# Altium schematic symbol library Hello.SchLib: 388 symbols (part 1 of 3)
Pins are listed as number, name and electrical type; pins without a type are passive.

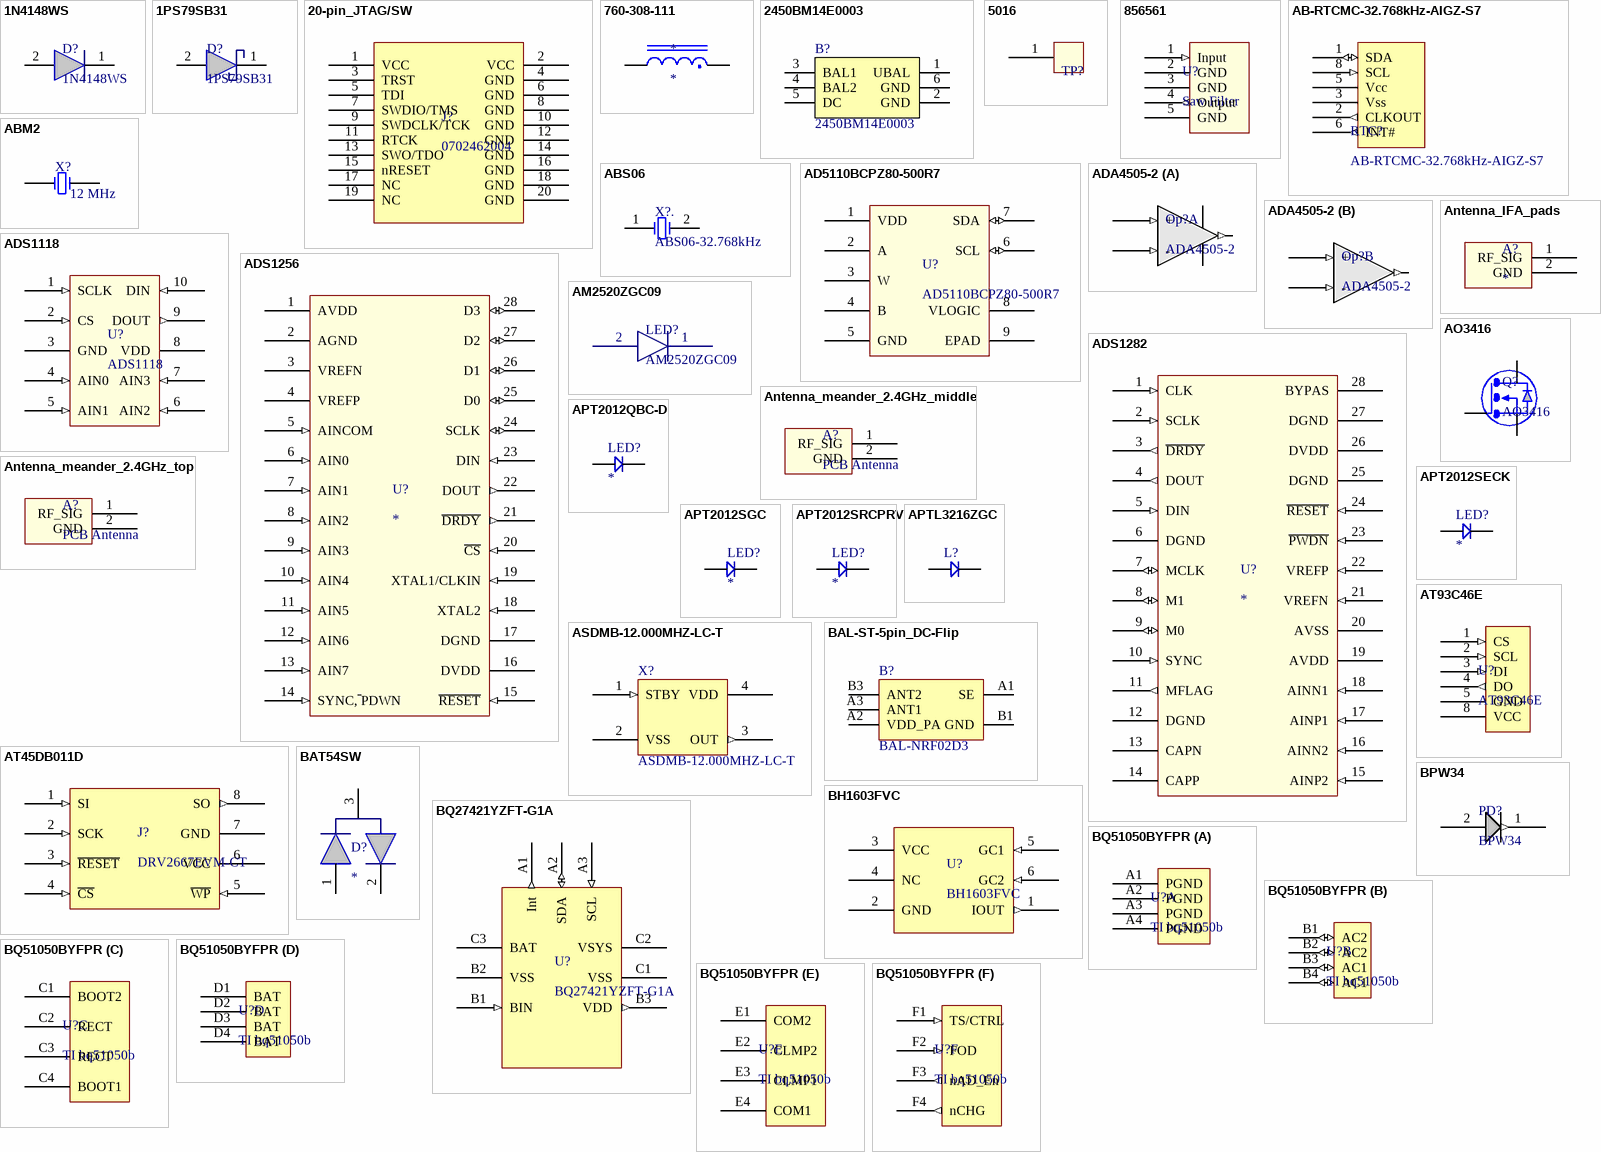
[diagram p0: symbols 1N4148WS to BQ51050BYFPR]

## 1N4148WS
designator D?
Standard diode, 75V 150mA; Vendor: Fairchild; PN: 1N4148WS
footprint SOD-323 (SOD-323 (SC-76) diode package)
pins: 1 Cathode, 2 Anode

## 1PS79SB31
designator D?
Schottky diode, 30V 200mA; Vendor: NXP; PN: 1PS79SB31
footprint SOD-523 (Diode small package)
pins: 1 Cathode, 2 Anode

## 20-pin_JTAG/SW
designator J?, comment 0702462004
20-pin JTAG connector; Vendor: Molex; PN: 0702462004
pins: 1 VCC, 2 VCC, 3 TRST, 4 GND, 5 TDI, 6 GND, 7 SWDIO/TMS, 8 GND, 9 SWDCLK/TCK, 10 GND, 11 RTCK, 12 GND, 13 SWO/TDO, 14 GND, 15 nRESET, 16 GND, 17 NC, 18 GND, 19 NC, 20 GND

## 760-308-111
designator *
Wuerth inductor
pins: 1, 2

## 2450BM14E0003
designator B?
2.45 GHz Impedance Matched Balun-Filter; Vendor: Johanson; PN: 2450BM14E0003
footprint BAL-0603-6pin (1608 balun, 6-Pins, Body 0.8x1.6mm, Pitch 0.50mm)
pins: 1 UBAL, 2 GND, 3 BAL1, 4 BAL2, 5 DC, 6 GND (power)

## 5016
designator 5016, comment TP?
Single-pad test point
footprint 5016 (Single-pad test point)
footprint TP0875x050 (Test Pad 0.875x0.50mm)
pins: 1
1 alternate drawing of the same symbol

## 856561
designator U?, comment Saw Filter
TriQuint 1575.42 Mhz Saw Filter
footprint CSP-5BT (Chip Scale Package, 5 pad, 1.40 x1.20 x 0.46mm)
pins: 1 Input (in), 2 GND (power), 3 GND (power), 4 Output (out), 5 GND (power)

## AB-RTCMC-32.768kHz-AIGZ-S7
designator RTC?
Abracon I2C RTC w/ integrated XO; PN: AB-RTCMC-32.768kHz-AIGZ-S7; Vendor: Abracon
footprint 8-CLCC (8 lead CLCC package, 2.3 x 1.5mm)
pins: 1 SDA (io), 2 CLKOUT (out), 3 Vss (power), 4 NC hidden, 5 Vcc (power), 6 INT# (out), 7 NC hidden, 8 SCL (in)

## ABM2
designator X?  value 12 MHz  (hidden comment: *)
Abracon ABM2 12MHz XO 8.0x4.5x1.4mm
footprint ABM2 (Abracon ABM2 2-lead XO 4.5x8x1.4mm)
pins: 1, 2

## ABS06
designator X?., comment ABS06-32.768kHz
Abracon ABS06 32.768kHz XO 2.0x1.2x0.6mm; Vendor: Abracon; Value: 32.768kHz; PN: ABS06-32.768kHz
footprint ABS06 (Abracon ABS06 32.768KHz XO 1.2x2.0x0.6mm)
pins: 1, 2

## AD5110BCPZ80-500R7
designator U?
80kOhm Digital potentiometer, 128 taps; Vendor: Analog Devices; PN: AD5110BCPZ80-500R7
pins: 1 VDD (power), 2 A, 3 W, 4 B, 5 GND (power), 6 SCL (io), 7 SDA (io), 8 VLOGIC (power), 9 EPAD

## ADA4505-2
designator Op?
Analog Devices Dual Op-Amp
footprint 8-WLCSP (8-ball WLCSP 1.42x1.42x0.65mm)
part A pins: A2 Vdd (power), A3 VoutA (out), B3 - (in), C2 Vss (power), C3 + (in)
part B pins: A1 VoutB (out), B1 - (in), C1 + (in)

## ADS1118
designator U?
SPI enabled Quad input ADC
footprint ADS1118 (ADC in a 10-QFN package)
pins: 1 SCLK (in), 2 CS (in), 3 GND (power), 4 AIN0 (in), 5 AIN1 (in), 6 AIN2 (in), 7 AIN3 (in), 8 VDD (power), 9 DOUT (out), 10 DIN (in)

## ADS1256
designator U?
24 bit ADC with SPI and Quad differential inputs; PN: ADS1256; Vendor: Texas Instruments
footprint SOIC-28
pins: 1 AVDD (power), 2 AGND (power), 3 VREFN, 4 VREFP, 5 AINCOM (in), 6 AIN0 (in), 7 AIN1 (in), 8 AIN2 (in), 9 AIN3 (in), 10 AIN4 (in), 11 AIN5 (in), 12 AIN6 (in), 13 AIN7 (in), 14 SYNC,~{ }PDWN (in), 15 ~{RESET} (in), 16 DVDD (power), 17 DGND (power), 18 XTAL2 (in), 19 XTAL1/CLKIN (in), 20 ~{CS} (in), 21 ~{DRDY} (out), 22 DOUT (out), 23 DIN (in), 24 SCLK (io), 25 D0 (io), 26 D1 (io), 27 D2 (io), 28 D3 (io)

## ADS1282
designator U?
31-bit ADC with SPI and 2 differential inputs; PN: ADS1282; Vendor: Texas Instruments
footprint SOIC-28
pins: 1 CLK (in), 2 SCLK (in), 3 ~{DRDY} (out), 4 DOUT (out), 5 DIN (in), 6 DGND (power), 7 MCLK (io), 8 M1 (io), 9 M0 (io), 10 SYNC (in), 11 MFLAG (out), 12 DGND (power), 13 CAPN, 14 CAPP, 15 AINP2 (in), 16 AINN2 (in), 17 AINP1 (in), 18 AINN1 (in), 19 AVDD (power), 20 AVSS (power), 21 VREFN (in), 22 VREFP (in), 23 ~{PWDN} (in), 24 ~{RESET} (in), 25 DGND (power), 26 DVDD (power), 27 DGND (power), 28 BYPAS

## AM2520ZGC09
designator LED?
Kingbright Green LED
footprint AM2520ZGC09 (Green Led)
pins: 1 Cathode, 2 Anode

## Antenna_IFA_pads
designator A?
PCB pads for external IFA
footprint Antenna_Pads (Antenna pads for external IFA)
pins: 1 RF_SIG, 2 GND

## Antenna_meander_2.4GHz_middle
designator A?, comment PCB Antenna  (net tie, no BOM)
Meander antenna printed on PCB
footprint Antenna_meander_2.4GHz_middle
footprint Antenna_meander_2.4GHz_middle_extended_keepout
footprint Antenna_meander_2.4GHz_MIDDLE_FAT (Antenna in a meander shape)
pins: 1 RF_SIG, 2 GND

## Antenna_meander_2.4GHz_top
designator A?, comment PCB Antenna  (net tie, no BOM)
Meander antenna printed on PCB
footprint Antenna_meander_2.4GHz_TOP (Antenna in a meander shape)
pins: 1 RF_SIG, 2 GND

## AO3416
designator Q?
N-channel enhancement mode FET; Vendor: Alpha and Omega; PN: AO3416
footprint SOT-23
pins: 1 G, 2 S, 3 D

## APT2012QBC-D
designator LED?
Kingbright Blue SMT LED
footprint LED_Kingbright
pins: 1 Anode, 2 Cathode

## APT2012SECK
designator LED?
Kingbright Orange SMT LED
footprint LED_Kingbright
pins: 1 Anode, 2 Cathode

## APT2012SGC
designator LED?
Kingbright Green SMT LED
footprint LED_Kingbright
pins: 1 Anode, 2 Cathode

## APT2012SRCPRV
designator LED?
Kingbright Red SMT LED
footprint LED_Kingbright
pins: 1 Anode, 2 Cathode

## APTL3216ZGC
designator L?  (value not drawn)
Kingbright Green SMT LED
footprint APTL3216ZGC (Kingbright green LED)
pins: 1 Anode, 2 Cathode

## ASDMB-12.000MHZ-LC-T
designator X?
ASDMB 12MHz Crystal Oscillator; Vendor: Abracon; PN: ASDMB-12.000MHZ-LC-T
footprint ASDMB (Abracon ASDMB Crystal Oscillator 2.5 x 2.0x 0.8mm)
pins: 1 STBY (in), 2 VSS (power), 3 OUT (out), 4 VDD (power)

## AT45DB011D
designator J?, comment DRV2667EVM-CT
1Mbit Flash memory, SPI interface 66MHz; Vendor: Atmel; PN: DRV2667EVM-CT
footprint SOIC-8 (SOIC, 8-Leads, Body 4.92x3.90mm, Pitch 1.27mm, IPC High Density)
pins: 1 SI (in), 2 SCK (in), 3 ~{RESET} (in), 4 ~{CS} (in), 5 ~{WP} (in), 6 VCC (power), 7 GND (power), 8 SO (out)

## AT93C46E
designator U?
Atmel 1KBIT 2MHZ 8SOIC I2C EEPROM
footprint SOIC-8 (SOIC, 8-Leads, Body 4.92x3.90mm, Pitch 1.27mm, IPC High Density)
pins: 1 CS (in), 2 SCL (in), 3 DI (in), 4 DO (out), 5 GND (power), 6 NC hidden, 7 NC hidden, 8 VCC (power)

## BAL-ST-5pin_DC-Flip
designator B?, comment BAL-NRF02D3
50 ohm balun transformer for 2.45GHz ISM; Vendor: ST; PN: BAL-NRF02D3
footprint BAL-ST-WLCSP
pins: A1 SE, A2 VDD_PA, A3 ANT1, B1 GND, B3 ANT2

## BAT54SW
designator D?
Double shottky diode
footprint SOT-323
pins: 1, 2, 3

## BH1603FVC
designator U?
Ambient light sensor IC; Vendor: Rohm; PN: BH1603FVC
footprint BH1603FVC (custom footprint for Rohm ambient light sensor)
pins: 1 IOUT (out), 2 GND (power), 3 VCC (power), 4 NC, 5 GC1 (in), 6 GC2 (in)

## BPW34
designator PD?
Photodetector
footprint BPW34 (Photodiode)
pins: 1 Cathode (out), 2 Anode

## BQ27421YZFT-G1A
designator U?
TI Fuel Gauge With Integrated Sense Resistor; PN: BQ27421YZFT-G1A; Vendor: TI
footprint BGA9C50P3X3_158X162X62 (BGA, 9-Leads, Body 1.58x1.62mmx0.63mm, Pitch 0.50mm)
pins: A1 Int (out), A2 SDA (io), A3 SCL (in), B1 BIN (in), B2 VSS (power), B3 VDD (out), C1 VSS (power), C2 VSYS (power), C3 BAT (power)

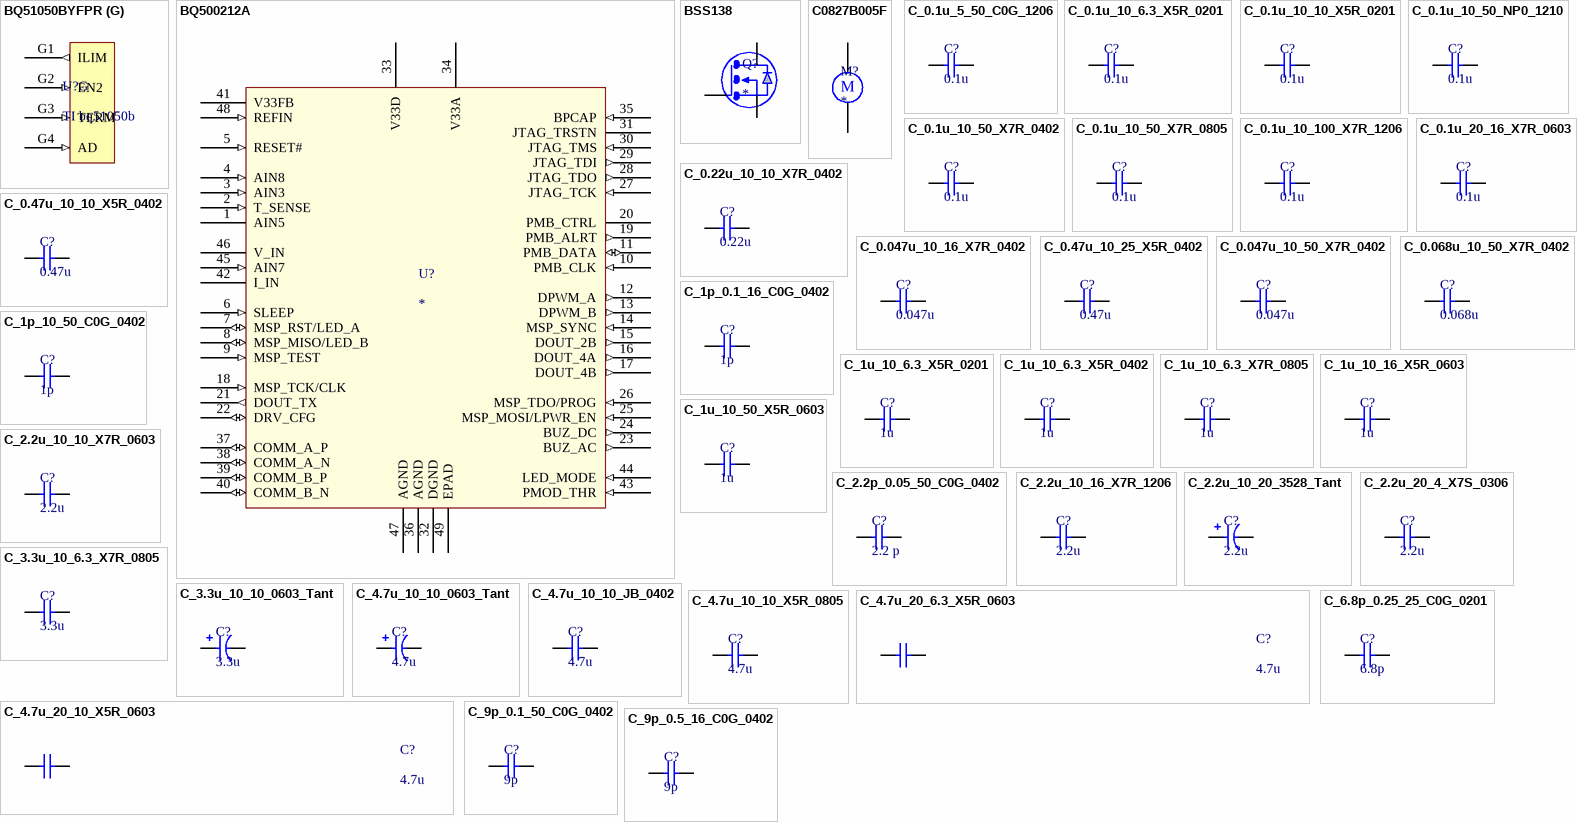
[diagram p1: symbols BQ51050BYFPR to C_9p_0.5_16_C0G_0402]

## BQ51050BYFPR
designator U?, comment TI bq51050b
TI Qi Inductive Charging Receiver with Battery Charging
footprint BGA-28 (1.91mm x 3.03mm 28-ball BGA)
part A pins: A1 PGND (power), A2 PGND (power), A3 PGND (power), A4 PGND (power)
part B pins: B1 AC2 (io), B2 AC2 (io), B3 AC1 (io), B4 AC1 (io)
part C pins: C1 BOOT2 (power), C2 RECT, C3 RECT, C4 BOOT1 (power)
part D pins: D1 BAT (power), D2 BAT (power), D3 BAT (power), D4 BAT (power)
part E pins: E1 COM2 (oe), E2 CLMP2 (oe), E3 CLMP1 (oe), E4 COM1 (oe)
part F pins: F1 TS/CTRL (in), F2 FOD (in), F3 nAD_En (out), F4 nCHG (out)
part G pins: G1 ILIM (out), G2 EN2 (in), G3 TERM (in), G4 AD (in)

## BQ500212A
designator U?
Wireless power controller for WPC TX A5 or A11; PN: BQ500212A; Vendor: TI
footprint VQFN-48
pins: 1 AIN5, 2 T_SENSE (in), 3 AIN3 (in), 4 AIN8 (in), 5 RESET# (in), 6 SLEEP (in) "Tie low during normal operation", 7 MSP_RST/LED_A (io), 8 MSP_MISO/LED_B (io), 9 MSP_TEST (in), 10 PMB_CLK (in), 11 PMB_DATA (io), 12 DPWM_A (out), 13 DPWM_B (out), 14 MSP_SYNC (in), 15 DOUT_2B (out), 16 DOUT_4A (out), 17 DOUT_4B (out), 18 MSP_TCK/CLK (in) "RTC crystal or RTC clock input", 19 PMB_ALRT (out), 20 PMB_CTRL (power), 21 DOUT_TX (out), 22 DRV_CFG (io), 23 BUZ_AC (out), 24 BUZ_DC (out), 25 MSP_MOSI/LPWR_EN (in), 26 MSP_TDO/PROG (in), 27 JTAG_TCK (in), 28 JTAG_TDO (out), 29 JTAG_TDI (out), 30 JTAG_TMS (in), 31 JTAG_TRSTN, 32 DGND (power), 33 V33D (power), 34 V33A (power), 35 BPCAP (in), 36 AGND (power), 37 COMM_A_P (io), 38 COMM_A_N (io), 39 COMM_B_P (io), 40 COMM_B_N (io), 41 V33FB (power), 42 I_IN (power) "EFuse programming supply, GND if no programming, else pull-down)", 43 PMOD_THR (in), 44 LED_MODE (in), 45 AIN7 (in), 46 V_IN (power), 47 AGND (power), 48 REFIN (in), 49 EPAD (power)

## BSS138
designator Q?
N-channel enhancement mode FET; PN: BSS138; Vendor: Fairchild
footprint SOT-23
pins: 1 G, 2 S, 3 D

## C0827B005F
designator M?
JinLong Machinery C0827B005F Vibration Motor
footprint C0827B005F (JinLong Machinery 8mm diameter radial vibration motor)
pins: 1 Vcc (power), 2 GND (power)
text: M

## C_0.1u_5_50_C0G_1206
designator C?, comment 0.1u
Chip capacitor; Vendor: TDK; PN: C3216C0G1H104J160AA; Tolerance: 5 %; Voltage: 50 V; Temp: C0G; Value: 0.1u; Size: 1206
footprint CAP1206_SENSE_DVT (Chip Capacitor, 2-Leads)
pins: 1, 2

## C_0.1u_10_6.3_X5R_0201
designator C?, comment 0.1u
Chip capacitor; Vendor: Taiyo Yuden; PN: JMK063BJ104KP-F; Tolerance: 10%; Voltage: 6.3; Temp: X5R; Value: 0.1u; Size: 0201
footprint CAP0201 (Chip Capacitor, 2-Leads, Body 0201 / 0.60x0.30mm, IPC High Density)
pins: 1, 2

## C_0.1u_10_10_X5R_0201
designator C?, comment 0.1u
Chip capacitor; Vendor: Taiyo Yuden; PN: LMK063BJ104KP-F; Tolerance: 10%; Voltage: 10V; Temp: X5R; Value: 0.1u; Size: 0201
footprint CAP0201 (Chip Capacitor, 2-Leads, Body 0201 / 0.60x0.30mm, IPC High Density)
pins: 1, 2

## C_0.1u_10_50_NP0_1210
designator C?, comment 0.1u
Chip capacitor; Vendor: TDK; PN: C3225C0G1H104K250AA; Tolerance: 10%; Voltage: 50V; Temp: NP0; Value: 0.1u; Size: 1210
footprint CAP1210 (Chip Capacitor, 2-Leads, Body 1206 / 3.20x2.5mm, IPC High Density)
pins: 1, 2

## C_0.1u_10_50_X7R_0402
designator C?, comment 0.1u
Chip capacitor; Vendor: Taiyo Yuden; PN: UMK105B7104KV-FR; Tolerance: 10%; Voltage: 50V; Temp: X7R; Value: 0.1u; Size: 0402
footprint CAP0402_SENSE_DVT (Chip Capacitor, 2-Leads)
pins: 1, 2

## C_0.1u_10_50_X7R_0805
designator C?, comment 0.1u
Chip capacitor; Vendor: Yageo; PN: CC0805KRX7R9BB104; Tolerance: 10%; Voltage: 50V; Temp: X7R; Value: 0.1u; Size: 0805
footprint CAP0805_SENSE_DVT (Chip Capacitor, 2-Leads)
pins: 1, 2

## C_0.1u_10_100_X7R_1206
designator C?, comment 0.1u
Chip capacitor; Vendor: TDK; PN: C3216X7R2A104K160AA; Tolerance: 10%; Voltage: 100V; Temp: X7R; Value: 0.1u; Size: 1206
footprint CAP1206_SENSE_DVT (Chip Capacitor, 2-Leads)
pins: 1, 2

## C_0.1u_20_16_X7R_0603
designator C?, comment 0.1u
Chip capacitor; Vendor: Samsung; PN: CL10B104MO8NNNC; Tolerance: 20%; Voltage: 16V; Temp: X7R; Value: 0.1u; Size: 0603
footprint CAP0603_SENSE_DVT (Chip Capacitor, 2-Leads)
pins: 1, 2

## C_0.22u_10_10_X7R_0402
designator C?, comment 0.22u
Chip capacitor; Vendor: TDK; PN: C1005X7R1A224K050BB; Tolerance: 10%; Voltage: 10V; Temp: X7R; Value: 0.22u; Size: 0402
footprint CAP0402_SENSE_DVT (Chip Capacitor, 2-Leads)
pins: 1, 2

## C_0.47u_10_10_X5R_0402
designator C?, comment 0.47u
Chip capacitor; Vendor: TDK; PN: LMK105BJ474KV-F; Tolerance: 10%; Voltage: 10V; Temp: X5R; Value: 0.47u; Size: 0402
footprint CAP0402_SENSE_DVT (Chip Capacitor, 2-Leads)
pins: 1, 2

## C_0.047u_10_16_X7R_0402
designator C?, comment 0.047u
Chip capacitor; Vendor: Taiyo Yuden; PN: EMK105B7473KV-F; Tolerance: 10%; Voltage: 16V; Temp: X7R; Value: 0.047u; Size: 0402
footprint CAP0402_SENSE_DVT (Chip Capacitor, 2-Leads)
pins: 1, 2

## C_0.47u_10_25_X5R_0402
designator C?, comment 0.47u
Chip capacitor; Vendor: TDK; PN: C1005X5R1E474K050BB; Tolerance: 10%; Voltage: 25V; Temp: X5R; Value: 0.47u; Size: 0402
footprint CAP0402_SENSE_DVT (Chip Capacitor, 2-Leads)
pins: 1, 2

## C_0.047u_10_50_X7R_0402
designator C?, comment 0.047u
Chip capacitor; Vendor: TDK; PN: C1005X7R1H473K050BB; Tolerance: 10%; Voltage: 50V; Temp: X7R; Value: 0.047u; Size: 0402
footprint CAP0402_SENSE_DVT (Chip Capacitor, 2-Leads)
pins: 1, 2

## C_0.068u_10_50_X7R_0402
designator C?, comment 0.068u
Chip capacitor; Vendor: TDK; PN: C1005X7R1H683K050BB; Tolerance: 10%; Voltage: 50V; Temp: X7R; Value: 0.068u; Size: 0402
footprint CAP0402_SENSE_DVT (Chip Capacitor, 2-Leads)
pins: 1, 2

## C_1p_0.1_16_C0G_0402
designator C?, comment 1p
Chip capacitor; Vendor: Murata; PN: GRM0225C1C1R0BD05L; Tolerance: 0.1; Voltage: 16V; Temp: C0G; Value: 1p; Size: 0402
footprint CAP0402_SENSE_DVT (Chip Capacitor, 2-Leads)
pins: 1, 2

## C_1p_10_50_C0G_0402
designator C?, comment 1p
Chip capacitor; Vendor: TDK; PN: C1005C0G1H010B050BA; Tolerance: 10%; Voltage: 50V; Temp: C0G; Value: 1p; Size: 0402
footprint CAP0402_SENSE_DVT (Chip Capacitor, 2-Leads)
pins: 1, 2

## C_1u_10_6.3_X5R_0201
designator C?, comment 1u
Chip capacitor; Vendor: Samsung; PN: CL03A105KQ3CSNC; Tolerance: 10%; Voltage: 6.3V; Temp: X5R; Value: 1u; Size: 0201
footprint CAP0201 (Chip Capacitor, 2-Leads, Body 0201 / 0.60x0.30mm, IPC High Density)
pins: 1, 2

## C_1u_10_6.3_X5R_0402
designator C?, comment 1u
Chip capacitor; Vendor: Taiyo Yuden; PN: JMK105BJ105KV-F; Tolerance: 10%; Voltage: 6.3V; Temp: X5R; Value: 1u; Size: 0402
footprint CAP0402_SENSE_DVT (Chip Capacitor, 2-Leads)
pins: 1, 2

## C_1u_10_6.3_X7R_0805
designator C?, comment 1u
Chip capacitor; Vendor: TDK; PN: CGJ4J2X7R0J105K125AA; Tolerance: 10%; Voltage: 6.3; Temp: X7R; Value: 1u; Size: 0805
footprint CAP0805_SENSE_DVT (Chip Capacitor, 2-Leads)
pins: 1, 2

## C_1u_10_16_X5R_0603
designator C?, comment 1u
Chip capacitor; Vendor: TDK; PN: C0603C105K4PACTU; Tolerance: 10%; Voltage: 16V; Temp: X5R; Value: 1u; Size: 0603
footprint CAP0603_SENSE_DVT (Chip Capacitor, 2-Leads)
pins: 1, 2

## C_1u_10_50_X5R_0603
designator C?, comment 1u
Chip capacitor; Vendor: Taiyo Yuden; PN: UMK107BJ105KA-T; Tolerance: 10%; Voltage: 50V; Temp: X5R; Value: 1u; Size: 0603
footprint CAP0603_SENSE_DVT (Chip Capacitor, 2-Leads)
pins: 1, 2

## C_2.2p_0.05_50_C0G_0402
designator C?, comment 2.2 p
Chip capacitor; Vendor: Murata; PN: GRM1555C1H2R2WA01D; Tolerance: 0.05; Voltage: 50 V; Temp: C0G; Value: 2.2 p; Size: 0402
footprint CAP0402_SENSE_DVT (Chip Capacitor, 2-Leads)
pins: 1, 2

## C_2.2u_10_10_X7R_0603
designator C?, comment 2.2u
Chip capacitor; Vendor: TDK; PN: C1608X7R1A225K080AC; Tolerance: 10%; Voltage: 10V; Temp: X7R; Value: 2.2u; Size: 0603
footprint CAP0603_SENSE_DVT (Chip Capacitor, 2-Leads)
pins: 1, 2

## C_2.2u_10_16_X7R_1206
designator C?, comment 2.2u
Chip capacitor; Vendor: TDK; PN: C3216X7R1C225K/1.60; Tolerance: 10%; Voltage: 16V; Temp: X7R; Value: 2.2u; Size: 1206
footprint CAP1206_SENSE_DVT (Chip Capacitor, 2-Leads)
pins: 1, 2

## C_2.2u_10_20_3528_Tant
designator C?, comment 2.2u
Chip capacitor; Vendor: Kemet; PN: T494B225K020AT; Tolerance: 10%; Voltage: 20V; Value: 2.2u; Size: 3528
footprint Tant_EIA_3528 (Tantalum Capacitor EIA 3528)
pins: 1, 2

## C_2.2u_20_4_X7S_0306
designator C?, comment 2.2u
Chip capacitor; Vendor: Murata; PN: LLL185C70G225ME01L; Tolerance: 20%; Voltage: 4V; Temp: X7S; Value: 2.2u; Size: 0306
footprint CAP0306 (Chip Capacitor, 2-Leads, Body 0306 / 0.80x1.60mm, IPC High Density)
pins: 1, 2

## C_3.3u_10_6.3_X7R_0805
designator C?, comment 3.3u
Chip capacitor; Vendor: TDK; PN: CGJ4J2X7R0J335K125AA; Tolerance: 10%; Voltage: 6.3V; Temp: X7R; Value: 3.3u; Size: 0805
footprint CAP0805_SENSE_DVT (Chip Capacitor, 2-Leads)
pins: 1, 2

## C_3.3u_10_10_0603_Tant
designator C?, comment 3.3u
Chip capacitor; Vendor: AVX; PN: TPCL335K010R5000; Tolerance: 10%; Voltage: 10V; Value: 3.3u; Size: 0603
footprint CAP0603_POLARIZED (Chip Capacitor, 2-Leads, Body 0603 / 1.60x0.8mm, IPC High Density)
pins: 1, 2

## C_4.7u_10_10_0603_Tant
designator C?, comment 4.7u
Chip capacitor; Vendor: AVX; PN: TPCL475K010R5000; Tolerance: 10%; Voltage: 10V; Value: 4.7u; Size: 0603
footprint CAP0603_POLARIZED (Chip Capacitor, 2-Leads, Body 0603 / 1.60x0.8mm, IPC High Density)
pins: 1, 2

## C_4.7u_10_10_JB_0402
designator C?, comment 4.7u
Chip capacitor; Vendor: TDK; PN: C1005JB1A475K050BC; Tolerance: 10%; Voltage: 10V; Temp: JB; Value: 4.7u; Size: 0402
footprint CAP0402_SENSE_DVT (Chip Capacitor, 2-Leads)
pins: 1, 2

## C_4.7u_10_10_X5R_0805
designator C?, comment 4.7u
Chip capacitor; Vendor: AVX; PN: 0805ZD475KAT2A; Tolerance: 10%; Voltage: 10V; Temp: X5R; Value: 4.7u; Size: 0805
footprint CAP0805_SENSE_DVT (Chip Capacitor, 2-Leads)
pins: 1, 2

## C_4.7u_20_6.3_X5R_0603
designator C?, comment 4.7u
Chip capacitor; Vendor: Murata; PN: GRM188R60J475ME19D; Tolerance: 20%; Voltage: 6.3V; Temp: X5R; Value: 4.7u; Size: 0603
footprint CAP0603_SENSE_DVT (Chip Capacitor, 2-Leads)
pins: 1, 2

## C_4.7u_20_10_X5R_0603
designator C?, comment 4.7u
Chip capacitor; Vendor: TDK; PN: CGB3B1X5R1A475M055AC; Tolerance: 20%; Voltage: 10V; Temp: X5R; Value: 4.7u; Size: 0603
footprint CAP0603_SENSE_DVT (Chip Capacitor, 2-Leads)
pins: 1, 2

## C_6.8p_0.25_25_C0G_0201
designator C?, comment 6.8p
Chip capacitor; Vendor: Murata; PN: GJM0335C1E6R8CB01D; Tolerance: +/- 0.25p; Voltage: 25V; Temp: C0G; Value: 6.8p; Size: 0201
footprint CAP0201 (Chip Capacitor, 2-Leads, Body 0201 / 0.60x0.30mm, IPC High Density)
pins: 1, 2

## C_9p_0.1_50_C0G_0402
designator C?, comment 9p
Chip capacitor; Vendor: Murata; PN: GRM1555C1H9R1BA01D; Tolerance: 0.1; Voltage: 50V; Temp: C0G; Value: 9p; Size: 0402
footprint CAP0402_SENSE_DVT (Chip Capacitor, 2-Leads)
pins: 1, 2

## C_9p_0.5_16_C0G_0402
designator C?, comment 9p
Chip capacitor; Vendor: Murata; PN: C0402C0G1C090D020BC; Tolerance: 0.5; Voltage: 16V; Temp: C0G; Value: 9p; Size: 0402
footprint CAP0402_SENSE_DVT (Chip Capacitor, 2-Leads)
pins: 1, 2

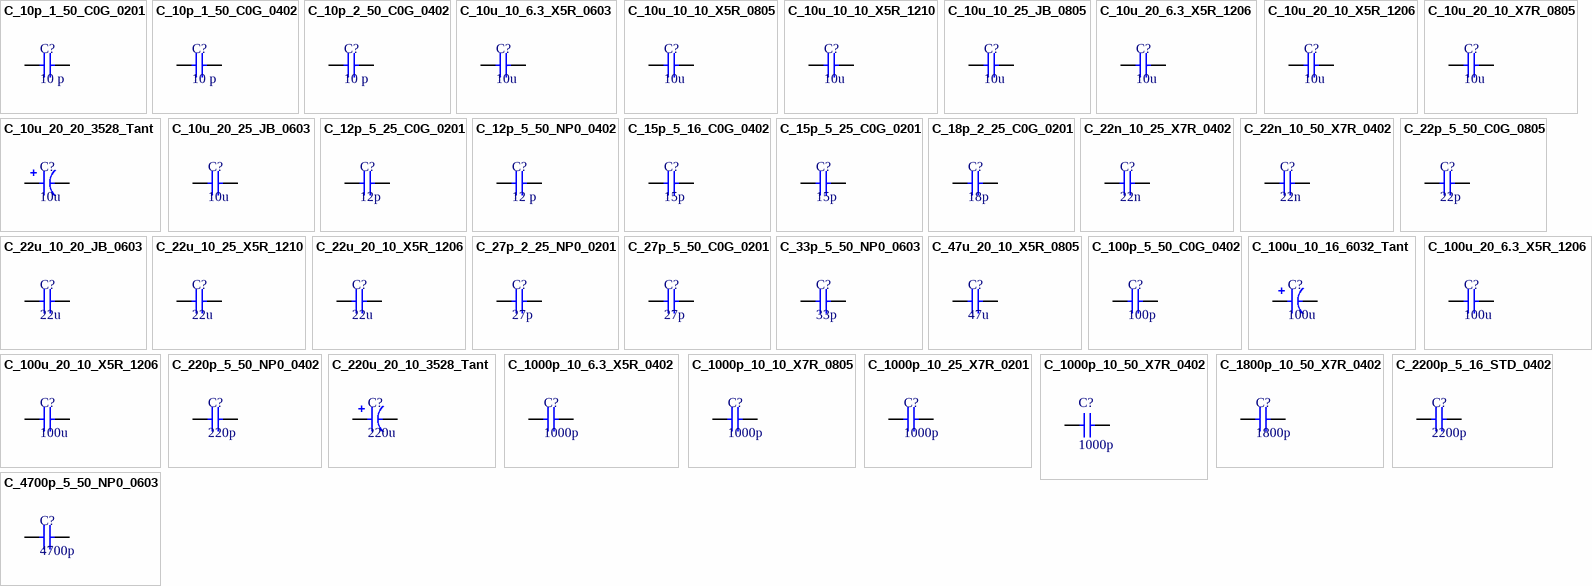
[diagram p2: symbols C_10p_1_50_C0G_0201 to C_4700p_5_50_NP0_0603]

## C_10p_1_50_C0G_0201
designator C?, comment 10 p
Chip capacitor; Vendor: Murata; PN: GRM0335C1H100FA01D; Tolerance: 1 %; Voltage: 50 V; Temp: C0G; Value: 10 p; Size: 0201
footprint CAP0201 (Chip Capacitor, 2-Leads, Body 0201 / 0.60x0.30mm, IPC High Density)
pins: 1, 2

## C_10p_1_50_C0G_0402
designator C?, comment 10 p
Chip capacitor; Vendor: Murata; PN: GRM1555C1H100FA01D; Tolerance: 1 %; Voltage: 50 V; Temp: C0G; Value: 10 p; Size: 0402
footprint CAP0402_SENSE_DVT (Chip Capacitor, 2-Leads)
pins: 1, 2

## C_10p_2_50_C0G_0402
designator C?, comment 10 p
Chip capacitor; Vendor: Murata; PN: GJM1555C1H100GB01D; Tolerance: 2 %; Voltage: 50 V; Temp: C0G; Value: 10 p; Size: 0402
footprint CAP0402_SENSE_DVT (Chip Capacitor, 2-Leads)
pins: 1, 2

## C_10u_10_6.3_X5R_0603
designator C?, comment 10u
Chip capacitor; Vendor: TDK; PN: C1608X5R0J106K080AB; Tolerance: 10%; Voltage: 6.3V; Temp: X5R; Value: 10u; Size: 0603
footprint CAP0603_SENSE_DVT (Chip Capacitor, 2-Leads)
pins: 1, 2

## C_10u_10_10_X5R_0805
designator C?, comment 10u
Chip capacitor; Vendor: Murata; PN: GRM21BR61A106KE19L; Tolerance: 10%; Voltage: 10V; Temp: X5R; Value: 10u; Size: 0805
footprint CAP0805_SENSE_DVT (Chip Capacitor, 2-Leads)
pins: 1, 2

## C_10u_10_10_X5R_1210
designator C?, comment 10u
Chip capacitor; Vendor: Kemet; PN: C1210C106K8PACTU; Tolerance: 10%; Voltage: 10V; Temp: X5R; Value: 10u; Size: 1210
footprint CAP1210 (Chip Capacitor, 2-Leads, Body 1206 / 3.20x2.5mm, IPC High Density)
pins: 1, 2

## C_10u_10_25_JB_0805
designator C?, comment 10u
Chip capacitor; Vendor: TDK; PN: C2012JB1E106K085AC; Tolerance: 10%; Voltage: 25V; Temp: JB; Value: 10u; Size: 0805
footprint CAP0805_SENSE_DVT (Chip Capacitor, 2-Leads)
pins: 1, 2

## C_10u_20_6.3_X5R_1206
designator C?, comment 10u
Chip capacitor; Vendor: TDK; PN: C3216X5R0J106M/0.85; Tolerance: 20%; Voltage: 6.3V; Temp: X5R; Value: 10u; Size: 1206
footprint CAP1206_SENSE_DVT (Chip Capacitor, 2-Leads)
pins: 1, 2

## C_10u_20_10_X5R_1206
designator C?, comment 10u
Chip capacitor; Vendor: TDK; PN: C3216X5R1A106M; Tolerance: 20%; Voltage: 10V; Temp: X5R; Value: 10u; Size: 1206
footprint CAP1206_SENSE_DVT (Chip Capacitor, 2-Leads)
pins: 1, 2

## C_10u_20_10_X7R_0805
designator C?, comment 10u
Chip capacitor; Vendor: TDK; PN: LMK212AB7106MG-T; Tolerance: 20%; Voltage: 10V; Temp: X7R; Value: 10u; Size: 0805
footprint CAP0805_SENSE_DVT (Chip Capacitor, 2-Leads)
pins: 1, 2

## C_10u_20_20_3528_Tant
designator C?, comment 10u
Chip capacitor; Vendor: Kemet; PN: T494B106M020AT; Tolerance: 10%; Voltage: 20V; Value: 10u; Size: 3528
footprint Tant_EIA_3528 (Tantalum Capacitor EIA 3528)
pins: 1, 2

## C_10u_20_25_JB_0603
designator C?, comment 10u
Chip capacitor; Vendor: TDK; PN: C1608JB1E106M080AC; Tolerance: 20%; Voltage: 25V; Temp: JB; Value: 10u; Size: 0603
footprint CAP0603_SENSE_DVT (Chip Capacitor, 2-Leads)
pins: 1, 2

## C_12p_5_25_C0G_0201
designator C?, comment 12p
Chip capacitor; Vendor: Murata; PN: GRM0335C1E120JA01D; Tolerance: 5%; Voltage: 25V; Temp: C0G; Value: 12p; Size: 0201
footprint CAP0201 (Chip Capacitor, 2-Leads, Body 0201 / 0.60x0.30mm, IPC High Density)
pins: 1, 2

## C_12p_5_50_NP0_0402
designator C?, comment 12 p
Chip capacitor; Vendor: Murata; PN: GRM1555C1H120JA01D; Tolerance: 5 %; Voltage: 50 V; Temp: NP0; Value: 12 p; Size: 0402
footprint CAP0402_SENSE_DVT (Chip Capacitor, 2-Leads)
pins: 1, 2

## C_15p_5_16_C0G_0402
designator C?, comment 15p
Chip capacitor; Vendor: Kemet; PN: C0402C150J4GACTU; Tolerance: 5%; Voltage: 16V; Temp: C0G; Value: 15p; Size: 0402
footprint CAP0402_SENSE_DVT (Chip Capacitor, 2-Leads)
pins: 1, 2

## C_15p_5_25_C0G_0201
designator C?, comment 15p
Chip capacitor; Vendor: Murata; PN: GRM0335C1E150JD01D; Tolerance: 5%; Voltage: 25V; Temp: C0G; Value: 15p; Size: 0201
footprint CAP0201 (Chip Capacitor, 2-Leads, Body 0201 / 0.60x0.30mm, IPC High Density)
pins: 1, 2

## C_18p_2_25_C0G_0201
designator C?, comment 18p
Chip capacitor; Vendor: TDK; PN: C0603C0G1E180G030BG; Tolerance: 2 %; Voltage: 25V; Temp: C0G; Value: 18p; Size: 0201
footprint CAP0201 (Chip Capacitor, 2-Leads, Body 0201 / 0.60x0.30mm, IPC High Density)
pins: 1, 2

## C_22n_10_25_X7R_0402
designator C?, comment 22n
Chip capacitor; Vendor: Taiyo Yuden; PN: TMK105B7223KV-F; Tolerance: 10%; Voltage: 25V; Temp: X7R; Value: 22n; Size: 0402
footprint CAP0402_SENSE_DVT (Chip Capacitor, 2-Leads)
pins: 1, 2

## C_22n_10_50_X7R_0402
designator C?, comment 22n
Chip capacitor; Vendor: Murata; PN: GRM155R71H223KA12J; Tolerance: 10%; Voltage: 50V; Temp: X7R; Value: 22n; Size: 0402
footprint CAP0402_SENSE_DVT (Chip Capacitor, 2-Leads)
pins: 1, 2

## C_22p_5_50_C0G_0805
designator C?, comment 22p
Chip capacitor; Vendor: Yageo; PN: CC0805JRNP09BN220; Tolerance: 5%; Voltage: 50V; Temp: C0G; Value: 22p; Size: 0805
footprint CAP0805_SENSE_DVT (Chip Capacitor, 2-Leads)
pins: 1, 2

## C_22u_10_20_JB_0603
designator C?, comment 22u
Chip capacitor; Vendor: TDK; PN: C1608JB1A226M080AC; Tolerance: 20%; Voltage: 10V; Temp: JB; Value: 22u; Size: 0603
footprint CAP0603_SENSE_DVT (Chip Capacitor, 2-Leads)
pins: 1, 2

## C_22u_10_25_X5R_1210
designator C?, comment 22u
Chip capacitor; Vendor: Murata; PN: GRM32ER61E226KE15L; Tolerance: 10%; Voltage: 25V; Temp: X5R; Value: 22u; Size: 1210
footprint CAP1210 (Chip Capacitor, 2-Leads, Body 1206 / 3.20x2.5mm, IPC High Density)
pins: 1, 2

## C_22u_20_10_X5R_1206
designator C?, comment 22u
Chip capacitor; Vendor: Taiyo Yuden; PN: LMK316BJ226ML; Tolerance: 20%; Voltage: 10V; Temp: X5R; Value: 22u; Size: 1206; Hello_PN: *
footprint CAP1206_SENSE_DVT (Chip Capacitor, 2-Leads)
pins: 1, 2

## C_27p_2_25_NP0_0201
designator C?, comment 27p
Chip capacitor; Vendor: Johanson; PN: 250R05L270GV4T; Tolerance: 2 %; Voltage: 25V; Temp: NP0; Value: 27p; Size: 0201
footprint CAP0201 (Chip Capacitor, 2-Leads, Body 0201 / 0.60x0.30mm, IPC High Density)
pins: 1, 2

## C_27p_5_50_C0G_0201
designator C?, comment 27p
Chip capacitor; Vendor: Taiyo Yuden; PN: UMK063CG270JT-F; Tolerance: 5 %; Voltage: 50V; Temp: C0G; Value: 27p; Size: 0201
footprint CAP0201 (Chip Capacitor, 2-Leads, Body 0201 / 0.60x0.30mm, IPC High Density)
pins: 1, 2

## C_33p_5_50_NP0_0603
designator C?, comment 33p
Chip capacitor; Vendor: TDK; PN: C1608C0G1H330J080AA; Tolerance: 5%; Voltage: 50V; Temp: NP0; Value: 33p; Size: 0603
footprint CAP0603_SENSE_DVT (Chip Capacitor, 2-Leads)
pins: 1, 2

## C_47u_20_10_X5R_0805
designator C?, comment 47u
Chip capacitor; Vendor: TDK; PN: C2012X5R1A476M125AC; Tolerance: 20%; Voltage: 10V; Temp: X5R; Value: 47u; Size: 0805
footprint CAP0805_SENSE_DVT (Chip Capacitor, 2-Leads)
pins: 1, 2

## C_100p_5_50_C0G_0402
designator C?, comment 100p
Chip capacitor; Vendor: Murata; PN: GRM1535C1H101JDD5D; Tolerance: 5%; Voltage: 50V; Temp: C0G; Value: 100p; Size: 0402
footprint CAP0402_SENSE_DVT (Chip Capacitor, 2-Leads)
pins: 1, 2

## C_100u_10_16_6032_Tant
designator C?, comment 100u
Chip capacitor; Vendor: Kemet; PN: T491C107K016AT; Tolerance: 10%; Voltage: 16V; Value: 100u; Size: 6032
footprint Tant_EIA_6032 (Tantalum Capacitor EIA 6032)
pins: 1, 2

## C_100u_20_6.3_X5R_1206
designator C?, comment 100u
Chip capacitor; Vendor: TDK; PN: C3216X5R0J107M160AB; Tolerance: 20%; Voltage: 6.3V; Temp: X5R; Value: 100u; Size: 1206
footprint CAP1206_SENSE_DVT (Chip Capacitor, 2-Leads)
pins: 1, 2

## C_100u_20_10_X5R_1206
designator C?, comment 100u
Chip capacitor; Vendor: TDK; PN: C3216X5R1A107M160AC; Tolerance: 20%; Voltage: 10V; Temp: X5R; Value: 100u; Size: 1206
footprint CAP1206_SENSE_DVT (Chip Capacitor, 2-Leads)
pins: 1, 2

## C_220p_5_50_NP0_0402
designator C?, comment 220p
Chip capacitor; Vendor: Murata; PN: GRM1555C1H221JA01D; Tolerance: 5%; Voltage: 50V; Temp: NP0; Value: 220p; Size: 0402
footprint CAP0402_SENSE_DVT (Chip Capacitor, 2-Leads)
pins: 1, 2

## C_220u_20_10_3528_Tant
designator C?, comment 220u
Chip capacitor; Vendor: Kemet; PN: TLNT227M010R1300; Tolerance: 20%; Voltage: 10V; Value: 220u; Size: 3528
footprint Tant_EIA_3528 (Tantalum Capacitor EIA 3528)
pins: 1, 2

## C_1000p_10_6.3_X5R_0402
designator C?, comment 1000p
Chip capacitor; Vendor: Murata; PN: GRM155R60J102KA01D; Tolerance: 10%; Voltage: 6.3V; Temp: X5R; Value: 1000p; Size: 0402
footprint CAP0402_SENSE_DVT (Chip Capacitor, 2-Leads)
pins: 1, 2

## C_1000p_10_10_X7R_0805
designator C?, comment 1000p
Chip capacitor; Vendor: Kemet; PN: C0805C102K8RACTU; Tolerance: 10%; Voltage: 10V; Temp: X7R; Value: 1000p; Size: 0805
footprint CAP0805_SENSE_DVT (Chip Capacitor, 2-Leads)
pins: 1, 2

## C_1000p_10_25_X7R_0201
designator C?, comment 1000p
Chip capacitor; Vendor: Taiyo Yuden; PN: TMK063B7102KP-F; Tolerance: 10%; Voltage: 25V; Temp: X7R; Value: 1000p; Size: 0201
footprint CAP0201 (Chip Capacitor, 2-Leads, Body 0201 / 0.60x0.30mm, IPC High Density)
pins: 1, 2

## C_1000p_10_50_X7R_0402
designator C?, comment 1000p
Chip capacitor; Vendor: Murata; PN: GRM155R71H102KA01D; Tolerance: 10%; Voltage: 50V; Temp: X7R; Value: 1000p; Size: 0402
footprint CAP0402_SENSE_DVT (Chip Capacitor, 2-Leads)
pins: 1, 2

## C_1800p_10_50_X7R_0402
designator C?, comment 1800p
Chip capacitor; Vendor: Murata; PN: GRM155R71H182KA01D; Tolerance: 10%; Voltage: 50V; Temp: X7R; Value: 1800p; Size: 0402
footprint CAP0402_SENSE_DVT (Chip Capacitor, 2-Leads)
pins: 1, 2

## C_2200p_5_16_STD_0402
designator C?, comment 2200p
Chip capacitor; Vendor: Taiyo Yuden; PN: EMK105SD222JV-F; Tolerance: 5 %; Voltage: 16V; Temp: Standard; Value: 2200p; Size: 0402
footprint CAP0402_SENSE_DVT (Chip Capacitor, 2-Leads)
pins: 1, 2

## C_4700p_5_50_NP0_0603
designator C?, comment 4700p
Chip capacitor; Vendor: TDK; PN: C1608C0G1H472J080AA; Tolerance: 5%; Voltage: 50V; Temp: NP0; Value: 4700p; Size: 0603
footprint CAP0603_SENSE_DVT (Chip Capacitor, 2-Leads)
pins: 1, 2

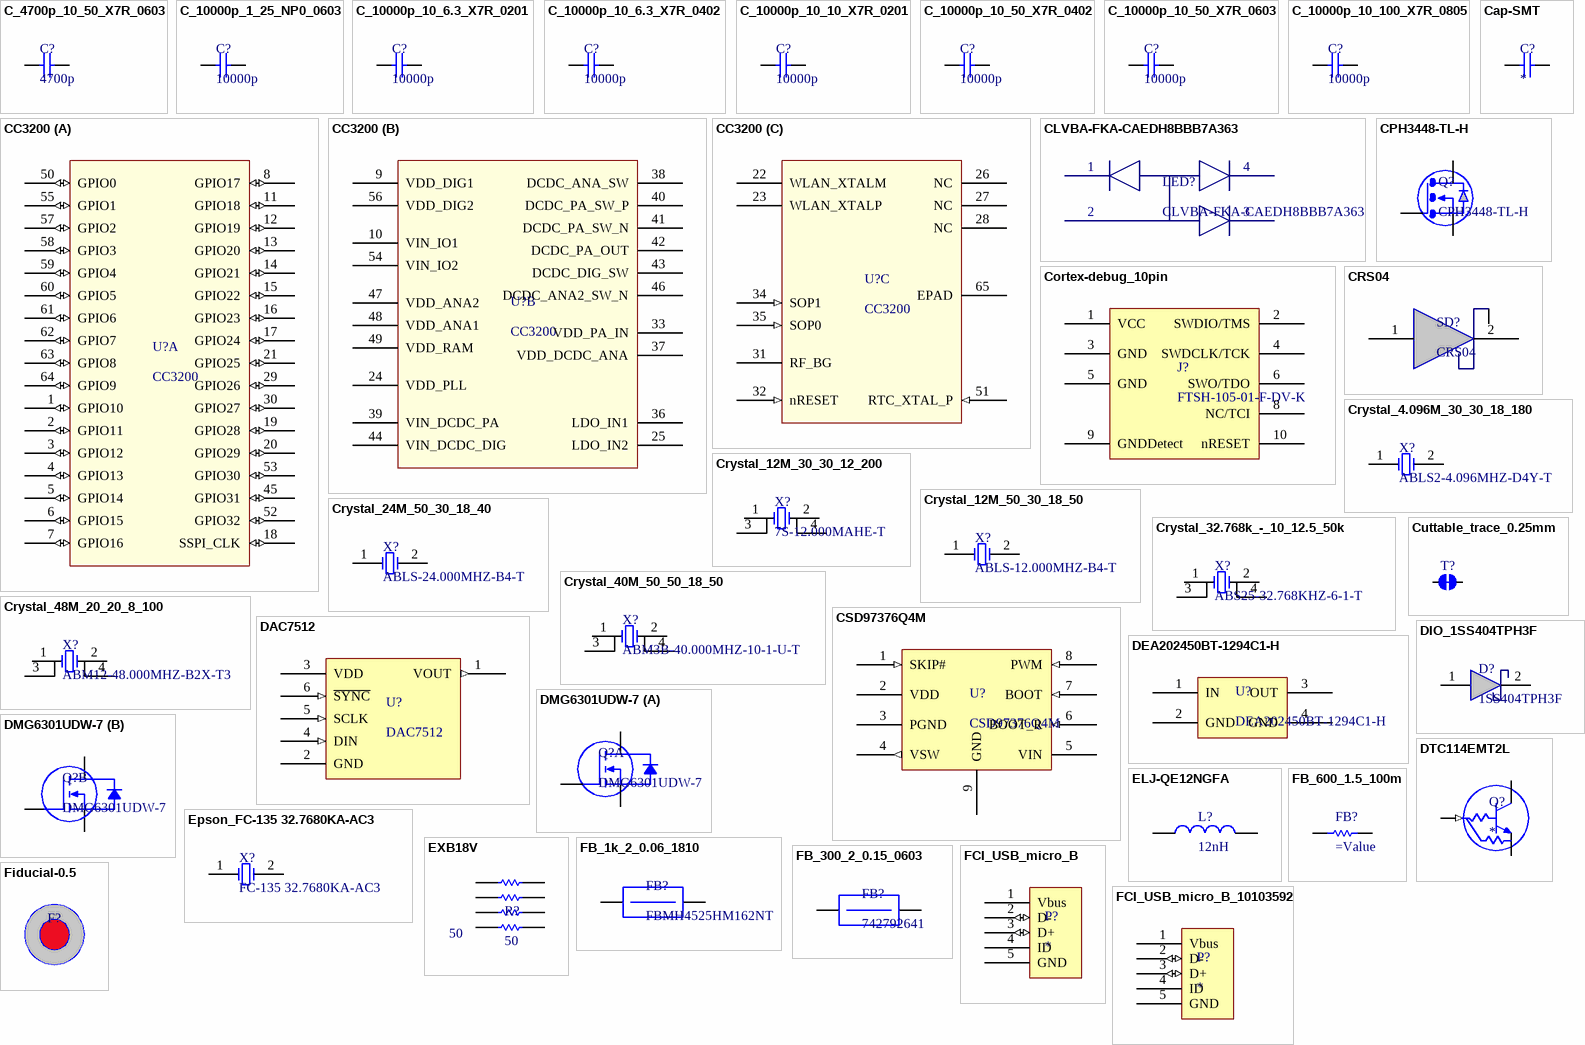
[diagram p3: symbols C_4700p_10_50_X7R_0603 to Fiducial-0.5]

## C_4700p_10_50_X7R_0603
designator C?, comment 4700p
Chip capacitor; Vendor: TDK; PN: CGA3E2X7R1H472K080AD; Tolerance: 10%; Voltage: 50V; Temp: XR7; Value: 4700p; Size: 0603
footprint CAP0603_SENSE_DVT (Chip Capacitor, 2-Leads)
pins: 1, 2

## C_10000p_1_25_NP0_0603
designator C?, comment 10000p
Chip capacitor; Vendor: Kemet; PN: C0603C103F3GACTU; Tolerance: 1%; Voltage: 25V; Temp: NP0; Value: 10000p; Size: 0603
footprint CAP0603_SENSE_DVT (Chip Capacitor, 2-Leads)
pins: 1, 2

## C_10000p_10_6.3_X7R_0201
designator C?, comment 10000p
Chip capacitor; Vendor: Murata; PN: GRM033R70J103KA01D; Tolerance: 10%; Voltage: 6.3V; Temp: X7R; Value: 10000p; Size: 0201
footprint CAP0201 (Chip Capacitor, 2-Leads, Body 0201 / 0.60x0.30mm, IPC High Density)
pins: 1, 2

## C_10000p_10_6.3_X7R_0402
designator C?, comment 10000p
Chip capacitor; Vendor: Murata; PN: GRM155R70J103KA01D; Tolerance: 10%; Voltage: 6.3V; Temp: X7R; Value: 10000p; Size: 0402
footprint CAP0402_SENSE_DVT (Chip Capacitor, 2-Leads)
pins: 1, 2

## C_10000p_10_10_X7R_0201
designator C?, comment 10000p
Chip capacitor; Vendor: Murata; PN: GRM033R71A103KA01D; Tolerance: 10%; Voltage: 10V; Temp: X7R; Value: 10000p; Size: 0201
footprint CAP0201 (Chip Capacitor, 2-Leads, Body 0201 / 0.60x0.30mm, IPC High Density)
pins: 1, 2

## C_10000p_10_50_X7R_0402
designator C?, comment 10000p
Chip capacitor; Vendor: Taiyo Yuden; PN: UMK105B7103KV-F; Tolerance: 10%; Voltage: 50; Temp: X7R; Value: 10000p; Size: 0402
footprint CAP0402_SENSE_DVT (Chip Capacitor, 2-Leads)
pins: 1, 2

## C_10000p_10_50_X7R_0603
designator C?, comment 10000p
Chip capacitor; Vendor: TDK; PN: C1608X7R1H103K080AA; Tolerance: 10%; Voltage: 50; Temp: X7R; Value: 10000p; Size: 0603
footprint CAP0603_SENSE_DVT (Chip Capacitor, 2-Leads)
footprint Model Name (Model Description)
pins: 1, 2

## C_10000p_10_100_X7R_0805
designator C?, comment 10000p
Chip capacitor; Vendor: Kemet; PN: C0805C103K1RACTU; Tolerance: 10%; Voltage: 100; Temp: X7R; Value: 10000p; Size: 0805
footprint CAP0805_SENSE_DVT (Chip Capacitor, 2-Leads)
pins: 1, 2

## Cap-SMT
designator C?
Chip capacitor; Vendor: Taiyo Yuden; Tolerance: 10%; Voltage: 25v; Temp: X5R; Value: *; Model: *; Size: 0201
footprint CAP0201 (Chip Capacitor, 2-Leads, Body 0201 / 0.60x0.30mm, IPC High Density)
footprint CAP0402 (Chip Capacitor, 2-Leads, Body 0402 / 0.10x0.50mm, IPC High Density)
footprint CAP0306 (Chip Capacitor, 2-Leads, Body 0306 / 0.80x1.60mm, IPC High Density)
footprint CAP0603 (Chip Capacitor, 2-Leads, Body 0603 / 1.60x0.8mm, IPC High Density)
pins: 1, 2

## CC3200
designator U?
TI Wi-FI module; Vendor: TI; PN: CC3200
footprint QFN50P900X900X100_HS-65N (QFN, 64-Leads, Body 9.00x9.00mm, Pitch 0.50mm, Thermal Pad 7.25x7.25mm, IPC Medium Density)
part A pins: 1 GPIO10 (io), 2 GPIO11 (io), 3 GPIO12 (io), 4 GPIO13 (io), 5 GPIO14 (io), 6 GPIO15 (io), 7 GPIO16 (io), 8 GPIO17 (io), 11 GPIO18 (io), 12 GPIO19 (io), 13 GPIO20 (io), 14 GPIO21 (io), 15 GPIO22 (io), 16 GPIO23 (io), 17 GPIO24 (io), 18 SSPI_CLK (io), 19 GPIO28 (io), 20 GPIO29 (io), 21 GPIO25 (io), 29 GPIO26 (io), 30 GPIO27 (io), 45 GPIO31 (io), 50 GPIO0 (io), 52 GPIO32 (io), 53 GPIO30 (io), 55 GPIO1 (io), 57 GPIO2 (io), 58 GPIO3 (io), 59 GPIO4 (io), 60 GPIO5 (io), 61 GPIO6 (io), 62 GPIO7 (io), 63 GPIO8 (io), 64 GPIO9 (io)
part B pins: 9 VDD_DIG1 (power), 10 VIN_IO1 (power), 24 VDD_PLL (power), 25 LDO_IN2 (power), 33 VDD_PA_IN (power), 36 LDO_IN1 (power), 37 VDD_DCDC_ANA (power), 38 DCDC_ANA_SW (power), 39 VIN_DCDC_PA (power), 40 DCDC_PA_SW_P (power), 41 DCDC_PA_SW_N (power), 42 DCDC_PA_OUT (power), 43 DCDC_DIG_SW (power), 44 VIN_DCDC_DIG (power), 46 DCDC_ANA2_SW_N (power), 47 VDD_ANA2 (power), 48 VDD_ANA1 (power), 49 VDD_RAM (power), 54 VIN_IO2 (power), 56 VDD_DIG2 (power)
part C pins: 22 WLAN_XTALM, 23 WLAN_XTALP, 26 NC, 27 NC, 28 NC, 31 RF_BG, 32 nRESET (in), 34 SOP1 (in), 35 SOP0 (in), 51 RTC_XTAL_P (in), 65 EPAD

## CLVBA-FKA-CAEDH8BBB7A363
designator LED?
RGB LED 5mA 0604; Vendor: Rohm; PN: CLVBA-FKA-CAEDH8BBB7A363
footprint PLCC4 (Gull-wing footprint for RGB LEDs like CLVBA-FKA)
pins: 1 Red Cathode, 2 Anode, 3 Blue Cathode, 4 Green Cathode

## Cortex-debug_10pin
designator J?, comment FTSH-105-01-F-DV-K
Cortex debug connector with JTAG interface; Vendor: Samtec; PN: FTSH-105-01-F-DV-K
pins: 1 VCC, 2 SWDIO/TMS, 3 GND, 4 SWDCLK/TCK, 5 GND, 6 SWO/TDO, 8 NC/TCI, 9 GNDDetect, 10 nRESET

## CPH3448-TL-H
designator Q?
N-channel enhancement mode Power FET; Vendor: ON Semi; PN: CPH3448-TL-H
footprint CPH3 (power mosfet footprint from ON Semi)
pins: 1 G, 2 S, 3 D

## CRS04
designator SD?
Schottky Diode
footprint CRS04 (Schottky Barrier Rectifier (Diode))
pins: 1 Anode, 2 Cathode

## Crystal_4.096M_30_30_18_180
designator X?, comment ABLS2-4.096MHZ-D4Y-T
4.096 MHz crystal; Vendor: Abracon; PN: ABLS2-4.096MHZ-D4Y-T
footprint Abracon_HC/49US (Abracon HC/49US crystal)
pins: 1, 2

## Crystal_12M_30_30_12_200
designator X?, comment 7S-12.000MAHE-T
12 MHz crystal; Vendor: TXC; PN: 7S-12.000MAHE-T
footprint TXC_7S_crystal (special footprint for all 7S series TXC crystals. 2.5x2.0 mm)
pins: 1, 2 "GND", 3, 4 "GND"

## Crystal_12M_50_30_18_50
designator X?, comment ABLS-12.000MHZ-B4-T
12 MHz crystal; Vendor: Abracon; PN: ABLS-12.000MHZ-B4-T
footprint Abracon_HC/49US (Abracon HC/49US crystal)
pins: 1, 2

## Crystal_24M_50_30_18_40
designator X?, comment ABLS-24.000MHZ-B4-T
24 MHz crystal; Vendor: Abracon; PN: ABLS-24.000MHZ-B4-T
footprint Abracon_HC/49US (Abracon HC/49US crystal)
pins: 1, 2

## Crystal_32.768k_-_10_12.5_50k
designator X?, comment ABS25-32.768KHZ-6-1-T
32.768kHz crystal; Vendor: Abracon; PN: ABS25-32.768KHZ-6-1-T
footprint ABS25 (Abracon ABS25 Crystal)
pins: 1, 2 "GND", 3, 4 "GND"

## Crystal_40M_50_50_18_50
designator X?, comment ABM3B-40.000MHZ-10-1-U-T
Abracon 40 MHz crystal; PN: ABM3B-40.000MHZ-10-1-U-T; Vendor: Abracon
footprint ABM3B_CRYSTAL (Abracon ABM3B series crystals)
pins: 1, 2 "GND", 3, 4 "GND"

## Crystal_48M_20_20_8_100
designator X?, comment ABM12-48.000MHZ-B2X-T3
48 MHz crystal; Vendor: Abracon; PN: ABM12-48.000MHZ-B2X-T3
footprint ABM12_crystal (Abracon ABM12 series crystal)
pins: 1, 2 "GND", 3, 4 "GND"

## CSD97376Q4M
designator U?
Synchronous Buck NexFET Power Stage; Vendor: TI; PN: CSD97376Q4M
footprint CSD97376Q4M (special SON footprint)
pins: 1 SKIP# (in), 2 VDD (power), 3 PGND (power), 4 VSW (out), 5 VIN (power), 6 BOOT_R (in), 7 BOOT (in), 8 PWM (in), 9 GND (power)

## Cuttable_trace_0.25mm
designator T?  (value not drawn)  (net tie, no BOM)
0.25 mm cuttable trace for debugging purpose
footprint cuttable_trace_0.25 (0.25 mm cuttable trace for debugging)
pins: 1, 2

## DAC7512
designator U?
TI 12-bit serial DAC; PN: DAC7512; Vendor: TI
footprint SOT-23-6 (SOT-23 6 pin, 0.95mm pitch, IPC Medium density)
pins: 1 VOUT (out), 2 GND (power), 3 VDD (power), 4 DIN (in), 5 SCLK (in), 6 ~{SYNC} (in)

## DEA202450BT-1294C1-H
designator U?
SAW filter for 2.4 GHz WLAN; Vendor: TDK; PN: DEA202450BT-1294C1-H
footprint DEA202450BT-1294C1-H (SAW filter 2.4 GHz WLAN)
pins: 1 IN, 2 GND, 3 OUT, 4 GND

## DIO_1SS404TPH3F
designator D?, comment 1SS404TPH3F
Schottky diode, 700 mA, 20 Vr; Vendor: Toshiba; PN: 1SS404TPH3F
footprint SOD-323 (SOD-323 (SC-76) diode package)
pins: 1 Anode, 2 Cathode

## DMG6301UDW-7
designator Q?
Vendor: Diodes Inc.; PN: DMG6301UDW-7
footprint SC-70-6 (SC-70 with 6 leads)
part A pins: 1 S1, 2 G1, 6 D1
part B pins: 3 D2, 4 S2, 5 G2

## DTC114EMT2L
designator Q?
NPN Digital transistor (built-in bias resistors); PN: DTC114EM; Vendor: Rohm
footprint DTC114EM (VTM3 footprint for the DTC114E)
pins: 1 IN (in), 2 GND (power), 3 OUT (oc)

## ELJ-QE12NGFA
designator L?, comment 12nH
Panasonic chip inductor 0603 +-2% Q61.9 @800MHz Resonant 4.9GHz
footprint IND_0603 (Chip Inductor, 2-Leads, Body 1.60x0.80mm, IPC Medium Density)
footprint IND_0402 (Chip Inductor, 2-Leads, Body 1.00x0.50mm, IPC Medium Density)
pins: 1, 2

## Epson_FC-135 32.7680KA-AC3
designator X?, comment FC-135 32.7680KA-AC3
Epson 32kHz crystal, 9pF; PN: FC-135 32.7680KA-AC3; Vendor: Epson
footprint Epson_FC-135 (Epson Crystal FC-135 series)
pins: 1, 2

## EXB18V
designator R?, comment 50
Panasonic Resistor Network (4x 0201); Value: 50
footprint EXB18V (Panasonic Resistor Network, 4-element 1.4x0.6x0.35mm)
pins: 1, 2, 3, 4, 5, 6, 7, 8

## FB_1k_2_0.06_1810
designator FB?, comment FBMH4525HM162NT
Ferrite bead, 1kohm impedance; Vendor: Taiyo Yuden; impedance at 100 MHz: 1k; rated current: 2 A; DCR: 0.06 ohm; PN: FBMH4525HM162NT
footprint RES1810 (Chip resistor 1810 low density)
pins: 1, 2

## FB_300_2_0.15_0603
designator FB?, comment 742792641
Ferrite bead, 300 ohm impedance; Vendor: Wuerth; impedance at 100 MHz: 300; rated current: 2 A; DCR: 0.15 ohm; PN: 742792641
footprint RES0603_SENSE_DVT (Chip resistor 0603)
pins: 1, 2

## FB_600_1.5_100m
designator FB?
Chip Resistor; Current rating [A]: 1.5; Vendor: Laird; DC Resistance [ohm]: 100m; Impedance [ohm]: 600; PN: MI0805K601R-10; Model: *; Size: 0805
footprint RES0805 (Chip resistor 0805 high density)
pins: 1, 2

## FCI_USB_micro_B
designator P?
board-cut USB connector; PN: 10103593-0001LF; Vendor: FCI
footprint FCI_10103593-0001LF (FCI micro USB connector, board cut-out mount)
pins: 1 Vbus (power), 2 D- (io), 3 D+ (io), 4 ID, 5 GND (power)

## FCI_USB_micro_B_10103592
designator P?
board-cut USB connector; PN: 10103592-0001LF; Vendor: FCI
footprint FCI_10103592-0001LF (FCI micro USB connector, reverse mount)
pins: 1 Vbus (power), 2 D- (io), 3 D+ (io), 4 ID, 5 GND (power)

## Fiducial-0.5
designator F?, comment Fiducial  (value not drawn)  (no BOM)
Fiducial with 0.5mm radius and 0.5mm paste expansion
footprint Fiducial-0.5 (Fiducial with 0.5mm Radius and 0.5mm soldermask)

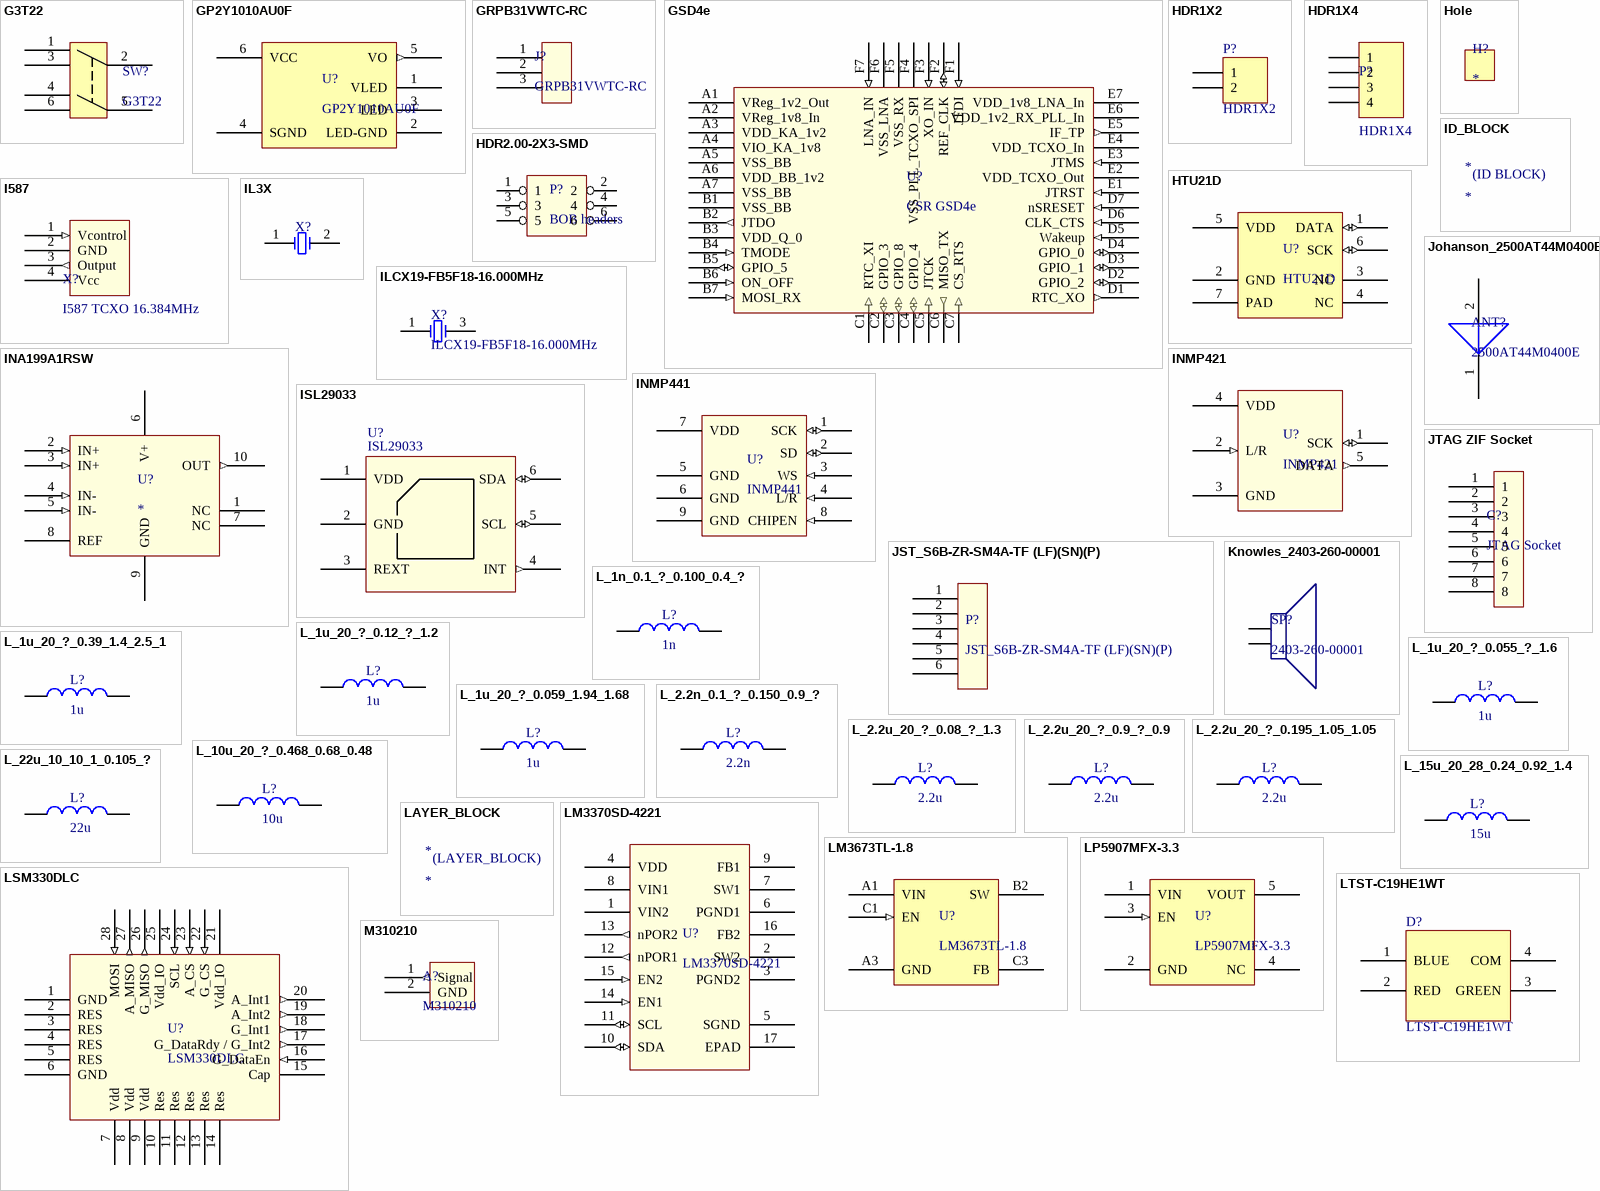
[diagram p4: symbols G3T22 to M310210]

## G3T22
designator SW?
DPDT Sealed switch; Vendor: NKK Switches; PN: G3T22
footprint GT32X_upright_toggle (GT32X toggle swithc, upright mount)
pins: 1, 2, 3, 4, 5, 6

## GP2Y1010AU0F
designator U?
Sharp dust sensor; PN: GP2Y1010AU0F; Vendor: Sharp
footprint JST_S6B-ZR-SM4A-TF (LF)(SN)(P) (JST connector, 6-pin, 1.5mm pitch)
pins: 1 VLED (power), 2 LED-GND, 3 LED, 4 SGND (power), 5 VO (out), 6 VCC (power)

## GRPB31VWTC-RC
designator J?
Sullivan 3-pin 1.27mm pitch SMD header; Vendor: Sullins; PN: GRPB31VWTC-RC
footprint GRPB31VWTC-RC (3-pin header SMD)
pins: 1, 2, 3

## GSD4e
designator U?, comment CSR GSD4e
CSR GSD4e WLCSP 42-ball
footprint BGA48 (BGA, 42-Leads, Body 3.50x3.20mmx0.60mm, Pitch 0.50mm)
pins: A1 VReg_1v2_Out (power), A2 VReg_1v8_In (power), A3 VDD_KA_1v2 (power), A4 VIO_KA_1v8 (power), A5 VSS_BB (power), A6 VDD_BB_1v2 (power), A7 VSS_BB, B1 VSS_BB (power), B2 JTDO (out), B3 VDD_Q_0 (power) "EFuse programming supply, GND if no programming, else pull-down)", B4 TMODE (in) "Tie low during normal operation", B5 GPIO_5 (io), B6 ON_OFF (in), B7 MOSI_RX (in) "Operation depends on A4/A5 strapping", C1 RTC_XI (in) "RTC crystal or RTC clock input", C2 GPIO_3 (io), C3 GPIO_8 (io), C4 GPIO_4 (io), C5 JTCK (in), C6 MISO_TX (out) "Operation depends on A4/A5 strapping", C7 CS_RTS (in) "Operation depends on A4/A5 strapping", D1 RTC_XO (out) "RTC or open if N/P", D2 GPIO_2 (io), D3 GPIO_1 (io), D4 GPIO_0 (io), D5 Wakeup (in), D6 CLK_CTS (in) "Operation depends on A4/A5 strapping", D7 nSRESET (in), E1 JTRST (in), E2 VDD_TCXO_Out (power), E3 JTMS (in), E4 VDD_TCXO_In (power), E5 IF_TP (out) "Analogue test point", E6 VDD_1v2_RX_PLL_In (power), E7 VDD_1v8_LNA_In (power), F1 JTDI (in), F2 REF_CLK (io) "TCXO input / XO output", F3 XO_IN (in) "Open for TCXO, connected for XO option", F4 VSS_PLL_TCXO_SPI (power), F5 VSS_RX (power), F6 VSS_LNA (power), F7 LNA_IN (in) "LNA input from SAW filter"

## HDR1X2
designator P?
Header, 2-pin; PN: 68000-102HLF; Vendor: FCI
footprint HDR1X2 (Connector; Header; 2 Position)
pins: 1, 2

## HDR1X4
designator P?
Header, 4-pin; PN: 68000-104HLF; Vendor: FCI
footprint HDR1X4 (Connector; Header; 4 Position)
pins: 1, 2, 3, 4

## HDR2.00-2X3-SMD
designator P?, comment BOB headers
footprint HDR2.00-2X3-SMD (HEADER, 2X3, 2.00MM PITCH, VERT 3.5MM, LEOCO 2018)
pins: 1, 2, 3, 4, 5, 6

## Hole
designator H?
general purpose hole
footprint HOLE_ROUND_0.6mm
footprint HOLE_ROUND_1.6mm
footprint HOLE_ROUND_1.7mm
footprint HOLE_ROUND_2.4mm
footprint HOLE_ROUND_3.1mm
footprint HOLE_ROUND_2.1mm
footprint HOLE_ROUND_1.8mm

## HTU21D
designator U?
Meas-spec T/H sensor; Vendor: Measurement specialties; PN: HTU21D
footprint HTU2xx
pins: 1 DATA (io), 2 GND (power), 3 NC, 4 NC, 5 VDD (power), 6 SCK (io), 7 PAD

## I587
designator X?, comment I587 TCXO 16.384MHz
ISLI I587 TCXO 16.384MHz
footprint I587 (ILSI I587 TCXO 2.8 x 1.4 x 1.1mm 4pin)
pins: 1 Vcontrol (in), 2 GND (power), 3 Output (out), 4 Vcc (power)

## ID_BLOCK
designator *
(DNP)
footprint Hello Band (Hello Band Identifcation Block)
text: (ID BLOCK)

## IL3X
designator X?, comment IL3X 32.768 MHz  (value not drawn)
ILSI IL3X Crystal Oscillator 32.768 MHz
footprint IL3X (ILSI IL3X Crystal Oscillator 3.2 x 1.5 x 0.9mm)
pins: 1, 2

## ILCX19-FB5F18-16.000MHz
designator X?
ILSI ILCX19 16 MHz Crystal Oscillator; PN: ILCX19-FB5F18-16.000MHz; Vendor: ILSI
footprint ILCX19 (ILSI ILCX19 Crystal Oscillator 2.0 x 1.6 x 0.45mm)
pins: 1 XTAL1, 3 XTAL2

## INA199A1RSW
designator U?
Voltage output current shunt monitor; PN: INA199A1RSW; Vendor: TI
footprint UQFN10
pins: 1 NC, 2 IN+ (in), 3 IN+ (in), 4 IN- (in), 5 IN- (in), 6 V+ (power), 7 NC, 8 REF, 9 GND (power), 10 OUT (out)

## INMP421
designator U?
Omnidirectional digital microphone with PDM interface; Vendor: InvenSense; PN: INMP421
footprint INMP421_broken (InvenSense digital PDM microphone)
footprint INMP421 (InvenSense digital PDM microphone)
pins: 1 SCK (io), 2 L/R (in), 3 GND (power), 4 VDD (power), 5 DATA (out)

## INMP441
designator U?
Omnidirectional digital microphone with I2S interface; Vendor: InvenSense; PN: INMP441
footprint INMP441 (InvenSense digital microphone)
pins: 1 SCK (io), 2 SD (io), 3 WS (in), 4 L/R (in), 5 GND (power), 6 GND (power), 7 VDD (power), 8 CHIPEN (in), 9 GND (power)

## ISL29033
designator U?
Ultra-Low Lux, Low Power, Integrated Digital Ambient Light Sensor with Interrupt Function; Vendor: Intersil; PN: ISL29033IROZ-T7
footprint 6-WDFN Exposed Pad (6-Pin DFN 2.10 x 2.0 mm)
pins: 1 VDD (power), 2 GND (power), 3 REXT, 4 INT (out), 5 SCL (io), 6 SDA (io)

## Johanson_2500AT44M0400E
designator ANT?, comment 2500AT44M0400E
Chip antenna 2.4 GHz; Vendor: Johanson; PN: 2500AT44M0400E
footprint Johanson_2500AT44M0400E (Chip antenna)
pins: 1, 2

## JST_S6B-ZR-SM4A-TF (LF)(SN)(P)
designator P?
6-pin JST connector; PN: JST_S6B-ZR-SM4A-TF (LF)(SN)(P); Vendor: JST
footprint JST_S6B-ZR-SM4A-TF (LF)(SN)(P) (JST connector, 6-pin, 1.5mm pitch)
pins: 1, 2, 3, 4, 5, 6

## JTAG ZIF Socket
designator C?, comment JTAG Socket
Molex 8-pin ribbon ZIF socket
footprint 51441-0893
pins: 1, 2, 3, 4, 5, 6, 7, 8

## Knowles_2403-260-00001
designator SP?, comment 2403-260-00001
Knowles SMD speaker; PN: 2403-260-00001; Vendor: Knowles
footprint Knowles_2403-260-00001 (Knowles SMD speaker)
pins: 1, 2

## L_1n_0.1_?_0.100_0.4_?
designator L?, comment 1n
SMD RF inductor 2.2nH; PN: LQP15MN1N0B02; Vendor: Murata; Tolerance: 0.1; RDC: .100; I_max: 0.4; Value: 1n; Q: ?; I_sat: ?
footprint RES0402_SENSE_DVT (Chip resistor 0402)
pins: 1, 2

## L_1u_20_?_0.12_?_1.2
designator L?, comment 1u
SMD power inductor, 1uH; PN: LQM31PN1R0M00; Vendor: Murata; Tolerance: 20%; RDC: 0.12; I_max: 1.2; Value: 1u; Q: ?; I_sat: ?
footprint IND_1206 (Chip Inductor, 2-Leads, Body 1206 / 3.20x1.60mm, IPC High Density)
pins: 1, 2

## L_1u_20_?_0.39_1.4_2.5_1
designator L?, comment 1u
SMD power inductor, 1uH; PN: XFL3012-102ME; Vendor: Coilcraft; Tolerance: 20%; RDC: 0.39; I_max: 2.5; I_sat: 1.4; Value: 1u; Q: ?
footprint INDC3030X13N (Chip Inductor, 2-Leads, Body 3.00x3.00mm, IPC Medium Density)
pins: 1, 2

## L_1u_20_?_0.055_?_1.6
designator L?, comment 1u
SMD power inductor, 1uH; PN: LQM2HPN1R0MG0; Vendor: Murata; Tolerance: 20%; RDC: 0.055; I_max: 1.6; Value: 1u; Q: ?; I_sat: ?
footprint IND_1008 (Inductor footprint 1008)
pins: 1, 2

## L_1u_20_?_0.059_1.94_1.68
designator L?, comment 1u
SMD power inductor, 1uH; PN: EPL2014-102MLB; Vendor: Coilcraft; Tolerance: 20%; RDC: 0.059; I_max: 1.94; I_sat: 1.68; Value: 1u; Q: ?
footprint EPL2014-xxxMLx (Coilcraft  SMD shielded power inductor)
pins: 1, 2

## L_2.2n_0.1_?_0.150_0.9_?
designator L?, comment 2.2n
SMD RF inductor 2.2nH; PN: MLG1005S2N2BT000; Vendor: TDK; Tolerance: 0.1; RDC: 0.150; I_max: 0.9; Value: 2.2n; Q: ?; I_sat: ?
footprint IND_0402 (Chip Inductor, 2-Leads, Body 1.00x0.50mm, IPC Medium Density)
pins: 1, 2

## L_2.2u_20_?_0.08_?_1.3
designator L?, comment 2.2u
SMD power inductor, 2.2uH; PN: LQM2HPN2R2MG0; Vendor: Murata; Tolerance: 20%; RDC: 0.08; I_max: 1.3; Value: 2.2u; Q: ?; I_sat: ?
footprint IND_1008 (Inductor footprint 1008)
pins: 1, 2

## L_2.2u_20_?_0.9_?_0.9
designator L?, comment 2.2u
SMD power inductor, 2.2uH; PN: LQM31PN2R2M00; Vendor: Murata; Tolerance: 20%; RDC: 0.19; I_max: 0.9; Value: 2.2u; Q: ?; I_sat: ?
footprint IND_1206 (Chip Inductor, 2-Leads, Body 1206 / 3.20x1.60mm, IPC High Density)
pins: 1, 2

## L_2.2u_20_?_0.195_1.05_1.05
designator L?, comment 2.2u
SMD power inductor, 2.2uH; PN: VLS201612ET-2R2M; Vendor: TDK; Tolerance: 20%; RDC: 0.195; I_max: 1.05; Value: 2.2u; Q: ?; I_sat: 1.05
footprint VLS201612Ex-xxxx (TDK SMD shielded power inductor)
pins: 1, 2

## L_10u_20_?_0.468_0.68_0.48
designator L?, comment 10u
SMD power inductor, 10uH; PN: CBC2518T100M; Vendor: Taiyo Yuden; Tolerance: 20%; RDC: 0.468; I_max: 0.68; I_sat: 0.48; Value: 10u; Q: ?
footprint IND_1007 (Inductor footprint 1007)
pins: 1, 2

## L_15u_20_28_0.24_0.92_1.4
designator L?, comment 15u
SMD power inductor, 15uH; PN: SDR0403-150ML; Vendor: BOURNS; Tolerance: 20%; Q: 28; RDC: 0.24; I_max: 0.92; I_sat: 1.40; Value: 15u
footprint SDR0403-xxxxL (Bourns SMD power inductor)
pins: 1, 2

## L_22u_10_10_1_0.105_?
designator L?, comment 22u
SMD power inductor, 22uH; PN: NLFV25T-220K-PF; Vendor: TDK; Tolerance: 10%; Q: 10; RDC: 1; I_max: 0.105; Value: 22u; I_sat: ?
footprint NLFV25-T-xxx-xx (TDK SMD shielded power inductor)
pins: 1, 2

## LAYER_BLOCK
designator *
(DNP)
footprint Layer Stackup (PCB Layer stackup identifier)
text: (LAYER_BLOCK)

## LM3370SD-4221
designator U?
TI PMIC with fixed 3.3 and 1.8 outputs; PN: LM3370SD-4221; Vendor: TI
footprint wson-16
pins: 1 VIN2 (power), 2 SW2, 3 PGND2 (power), 4 VDD (power), 5 SGND (power), 6 PGND1 (power), 7 SW1 (power), 8 VIN1 (power), 9 FB1, 10 SDA (io), 11 SCL (io), 12 nPOR1 (out), 13 nPOR2 (out), 14 EN1 (in), 15 EN2 (in), 16 FB2, 17 EPAD (power)

## LM3673TL-1.8
designator U?
TI switcher 1.8V regulator; PN: LM3673TL-1.8; Vendor: TI
footprint DSBGA-5 (BGA 5 pin, 1x1.4mm)
pins: A1 VIN (power), A3 GND (power), B2 SW, C1 EN (in), C3 FB

## LP5907MFX-3.3
designator U?
TI LDO 3.3V regulator; PN: LP5907MFX-3.3; Vendor: TI
footprint SOT-23-5 (SOT-23 5 pin, 0.95mm pitch, IPC Medium density)
pins: 1 VIN (power), 2 GND (power), 3 EN (in), 4 NC, 5 VOUT (power)

## LSM330DLC
designator U?
ST Micro LSM330DLC SPI Acceleromter / Gyroscope
footprint LGA-28 (LGA, 28-Leads, Body 4.00x5.00mm, Pitch 0.50mm, IPC Medium Density)
pins: 1 GND (power), 2 RES (power), 3 RES (power), 4 RES (power), 5 RES (power), 6 GND (power), 7 Vdd (power), 8 Vdd (power), 9 Vdd (power), 10 Res (power), 11 Res (power), 12 Res (power), 13 Res (power), 14 Res (power), 15 Cap (power), 16 G_DataEn (in), 17 G_DataRdy / G_Int2 (out), 18 G_Int1 (out), 19 A_Int2 (out), 20 A_Int1 (out), 21 Vdd_IO (power), 22 G_CS (in), 23 A_CS (in), 24 SCL (in), 25 Vdd_IO (power), 26 G_MISO (out), 27 A_MISO (out), 28 MOSI (in)

## LTST-C19HE1WT
designator D?
RGB LED Array; Vendor: LITE-ON; PN: LTST-C19HE1WT
footprint DFN165X210X160X80-4N (DFN, 4-Leads, body 0.210x0.160mm (max), Pitch 1.65x0.95mm)
pins: 1 BLUE, 2 RED, 3 GREEN, 4 COM

## M310210
designator A?
Savvi M310210 Bluetooth Antenna; PN: M310210; Vendor: Savvi
footprint M310210 (Savvi M310210 Bluetooth Antenna)
footprint M310210-2 (Savvi M310210 Bluetooth Antenna without keepouts)
footprint M310210-3 (Savvi M310210 Bluetooth Antenna with keepouts)
pins: 1 Signal (out), 2 GND (power)

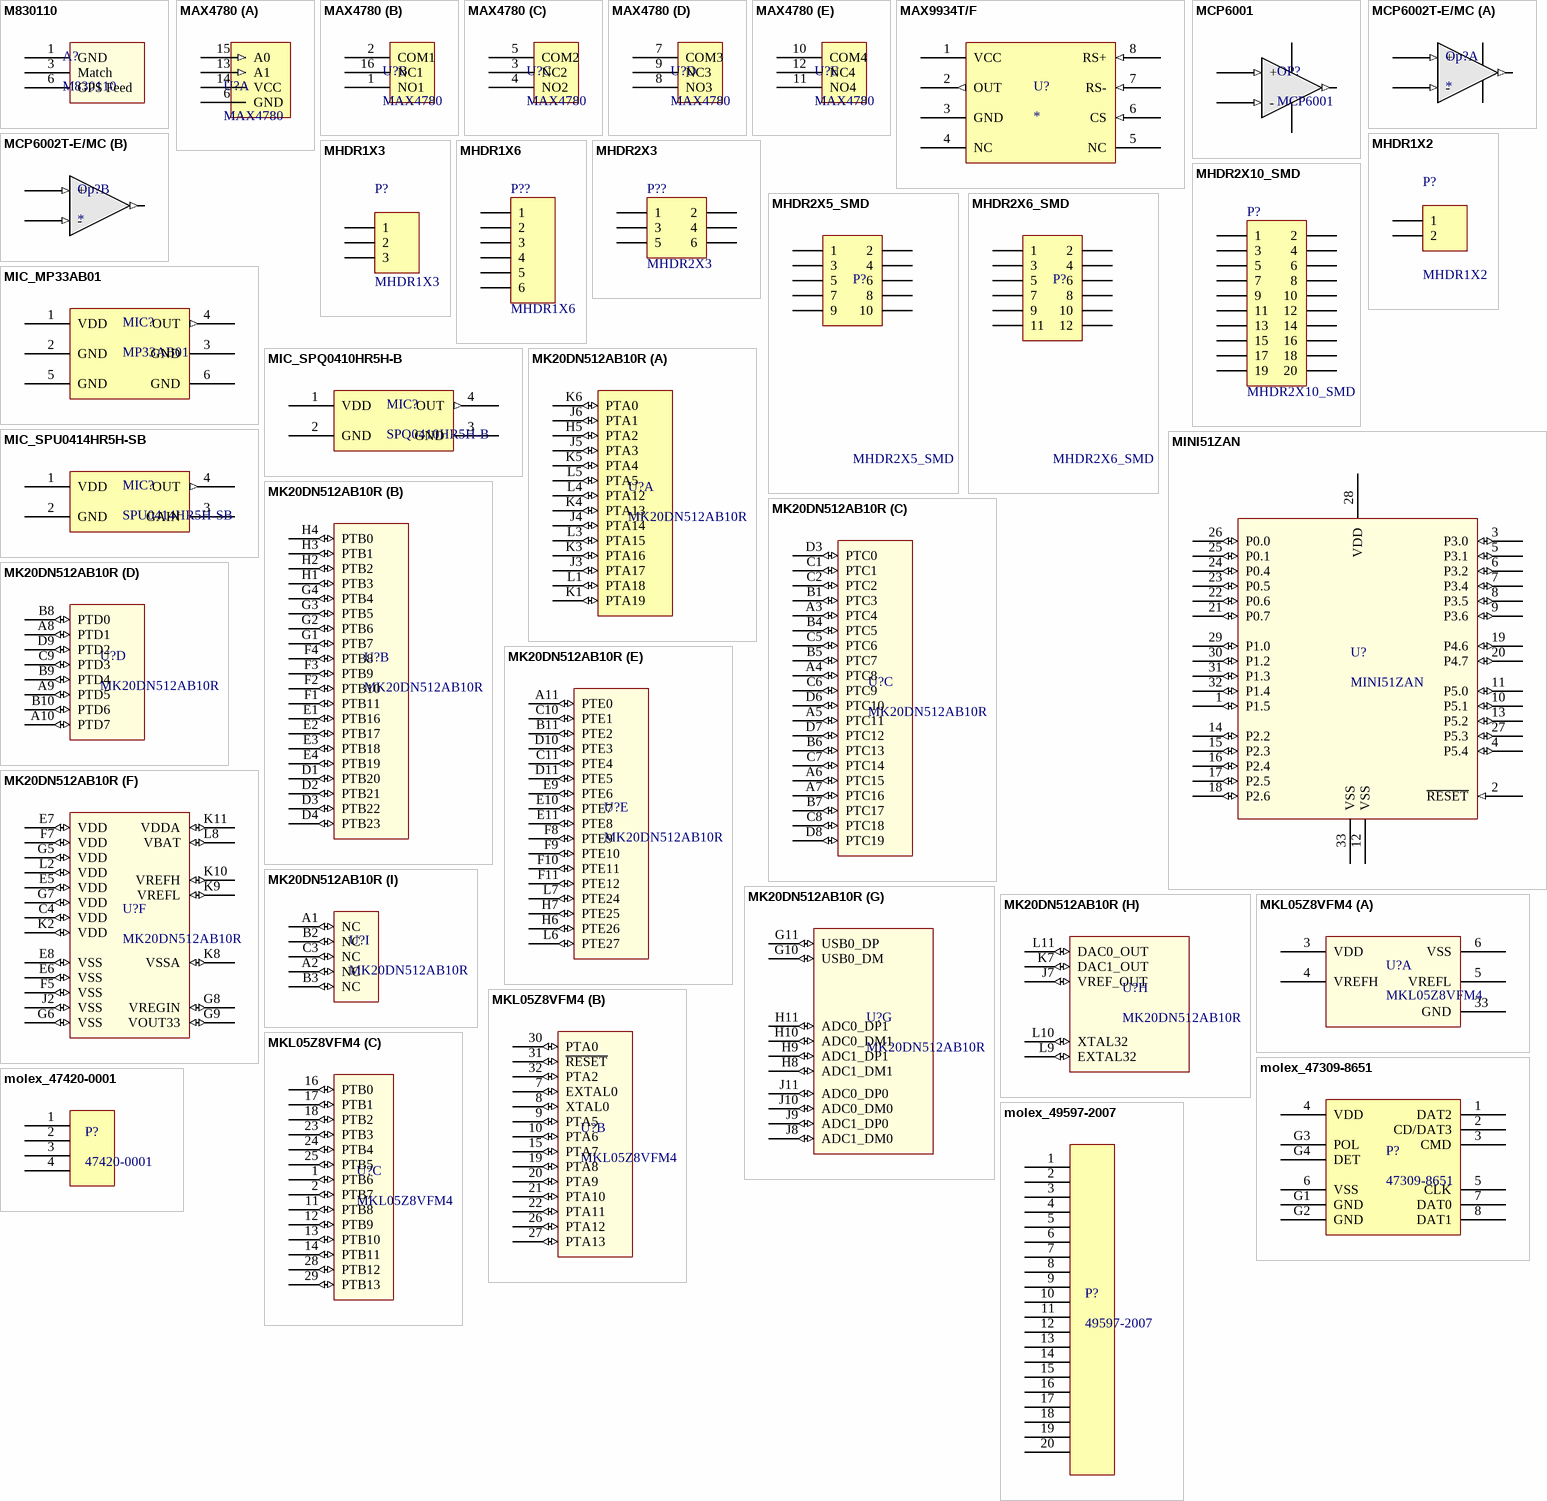
[diagram p5: symbols M830110 to molex_49597-2007]

## M830110
designator A?
Savvi M830110 GPS Antenna
footprint M830110 (Savvi M830110 3mmx8mm 6pin)
footprint M830110-2 (Savvi M830110 3mmx8mm 6pin without keepouts)
pins: 1 GND (power), 3 Match, 6 GPS Feed

## MAX4780
designator U?
Maxim Quad 2:1 multiplexer
footprint QFN127P600-8N (Maxim 16-TQFN T1633+4)
part A pins: 6 GND (power), 13 A1 (in), 14 VCC (power), 15 A0 (in), 17 (power) hidden to GND
part B pins: 1 NO1, 2 COM1, 16 NC1
part C pins: 3 NC2, 4 NO2, 5 COM2
part D pins: 7 COM3, 8 NO3, 9 NC3
part E pins: 10 COM4, 11 NO4, 12 NC4

## MAX9934T/F
designator U?
High-precision low-voltage curren-sense amplifier with current output and chip select for multiplexing; PN: MAX9934T/F; Maxim Integrated: Vendor
footprint uMAX8
pins: 1 VCC (power), 2 OUT (out), 3 GND (power), 4 NC, 5 NC, 6 CS (in), 7 RS- (in), 8 RS+ (in)

## MCP6001
designator OP?
Op Amp; Vendor: Microchip; PN: MCP6001
footprint MCP6001 (SOT23, 5-Leads, Body 2.03x2.10mm, Pitch 0.65mm, IPC Medium Density)
pins: 1 Vout (out), 2 Vss (power), 3 + (in), 4 - (in), 5 Vdd (power)

## MCP6002T-E/MC
designator Op?
Microchip MCP6002T-E/MC 1MHz Dual Low Power OpAmp
footprint MCP6002T-E/MC (Microchip DFN, 8-Leads, Body 3.00x2.00mm, Pitch 0.50mm, IPC Medium Density)
part A pins: 1 VoutA (out), 2 - (in), 3 + (in), 4 Vss (power), 8 Vdd (power)
part B pins: 5 + (in), 6 - (in), 7 VoutB (out)

## MHDR1X2
designator P?
Header, 2-Pin; Vendor: Sullins connector; PN: GRPB021VWVN-RC
footprint MHDR1X2 (Connector; Header; 2 Position)
pins: 1, 2

## MHDR1X3
designator P?
Header, 3-Pin; Vendor: Sullins connector; PN: GRPB031VWVN-RC
footprint MHDR1X3 (Connector; Header; 3 Position)
pins: 1, 2, 3